# Altium integrated library Renesas Microcontroller R8C.IntLib: 628 symbols (part 29 of 33)
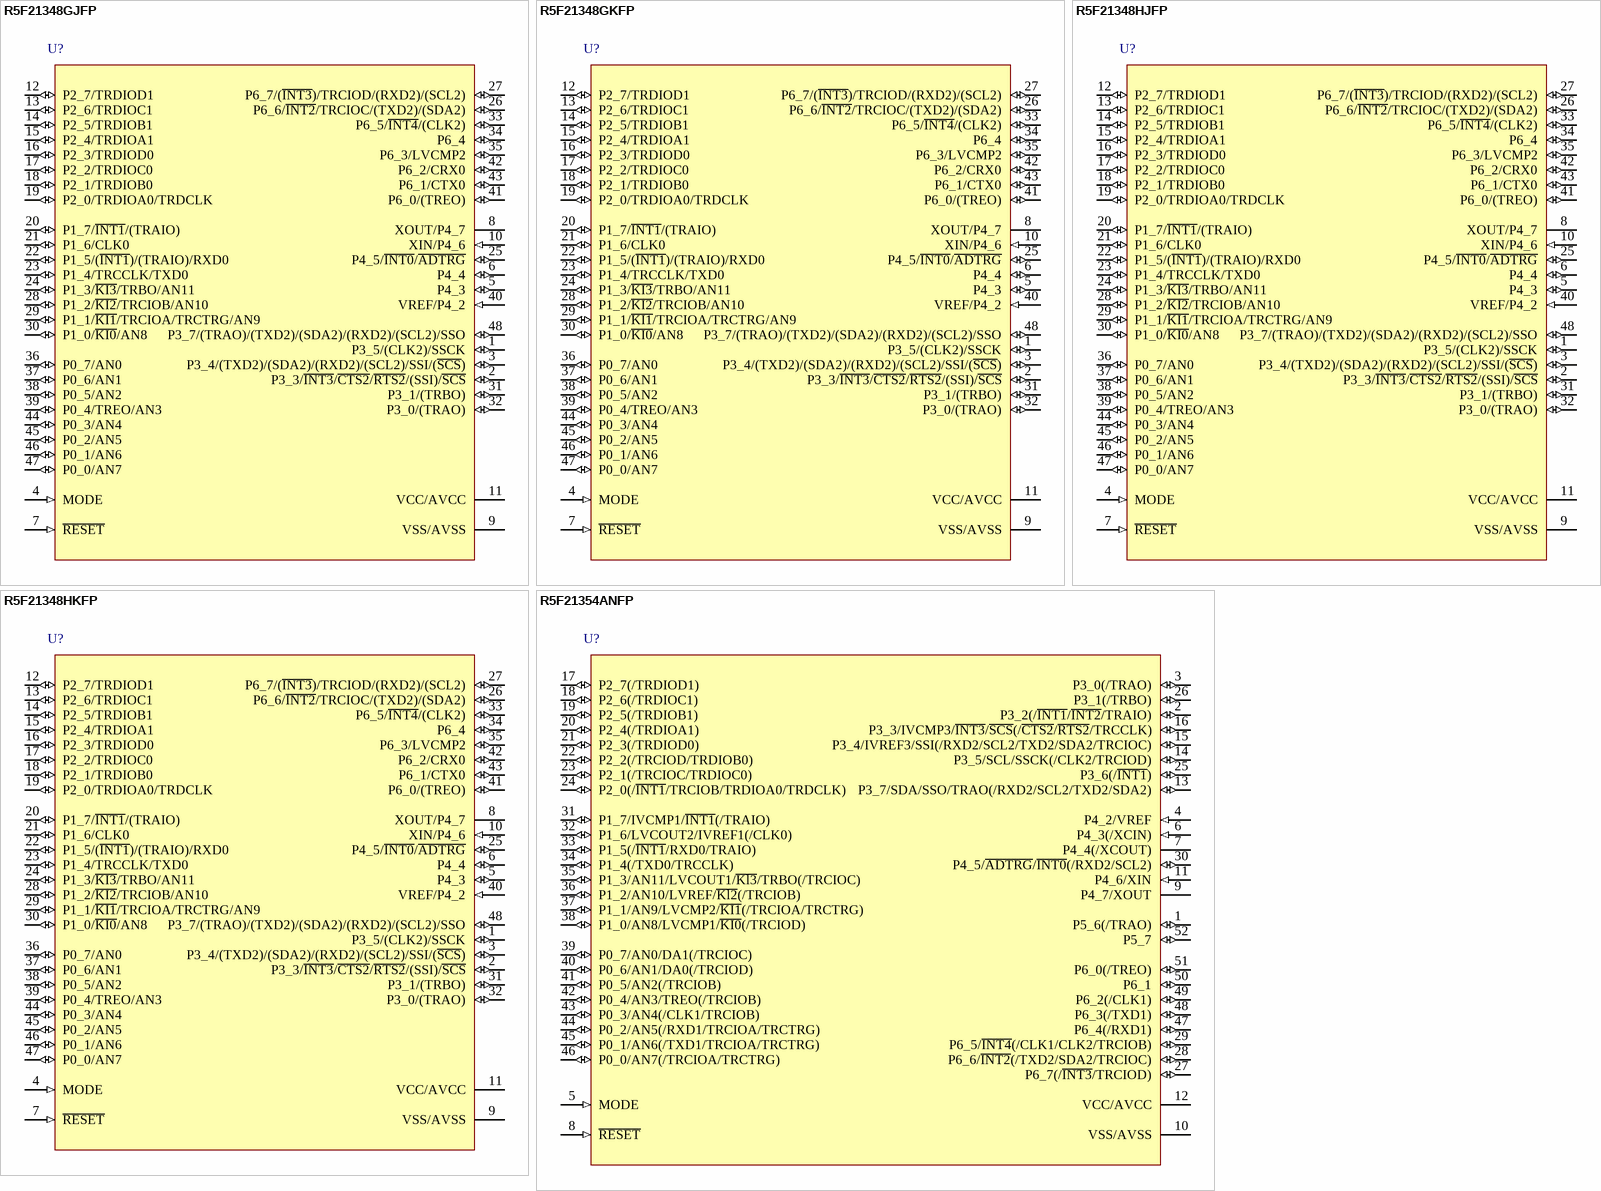
[diagram p144: symbols R5F21348GJFP to R5F21354ANFP]

## R5F21354ANFP
designator U?
R8C/35A Group Single Chip 16-Bit CMOS MCU, 16K ROM + 1K x4 Data Flash, 1.5K RAM, N Version; Published: 30-Oct-2009; DatasheetVersion: Rev.1.00, Sep-2009; PackageVersion: Nov-2007; PackageReference: PLQP0052JA-A; Publisher: Altium Limited; PackageDescription: 52-Pin Plastic Low Profile QFP, 10 x 10 x 1.4 mm Body, 0.65 mm Pitch; Code_JEITA: P-LQFP52-10x10-0.65; ComponentLink1Description: Manufacturer Link; ComponentLink1URL: http://sg.renesas.com/fmwk.jsp?cnt=r8c_family_landing.jsp&fp=/products/mpumcu/r8c_family/; ComponentLink2Description: Datasheet; ComponentLink2URL: http://documentation.renesas.com/eng/products/mpumcu/rej03b0225_r8c35ads.pdf; ComponentLink3Description: Packaging Specification; ComponentLink3URL: http://sg.renesas.com/media/products/common_info/package/pdf/ic/code/plqp0052ja_a.pdf
footprint PLQP0052JA-A_N (QFP, 52-Leads, Body 10x10mm, Pitch 0.65mm, IPC Medium Density)
footprint PLQP0052JA-A_L (QFP, 52-Leads, Body 10x10mm, Pitch 0.65mm, IPC High Density)
footprint PLQP0052JA-A_M (QFP, 52-Leads, Body 10x10mm, Pitch 0.65mm, IPC Low Density)
pins: 1 P5_6(/TRAO) (io), 2 P3_2(/~{INT1}/~{INT2}/TRAIO) (io), 3 P3_0(/TRAO) (io), 4 P4_2/VREF (in), 5 MODE (in), 6 P4_3(/XCIN) (in), 7 P4_4(/XCOUT), 8 ~{RESET} (in), 9 P4_7/XOUT, 10 VSS/AVSS (power), 11 P4_6/XIN (in), 12 VCC/AVCC (power), 13 P3_7/SDA/SSO/TRAO(/RXD2/SCL2/TXD2/SDA2) (io), 14 P3_5/SCL/SSCK(/CLK2/TRCIOD) (io), 15 P3_4/IVREF3/SSI(/RXD2/SCL2/TXD2/SDA2/TRCIOC) (io), 16 P3_3/IVCMP3/~{INT3}/~{SCS}(/~{CTS2}/~{RTS2}/TRCCLK) (io), 17 P2_7(/TRDIOD1) (io), 18 P2_6(/TRDIOC1) (io), 19 P2_5(/TRDIOB1) (io), 20 P2_4(/TRDIOA1) (io), 21 P2_3(/TRDIOD0) (io), 22 P2_2(/TRCIOD/TRDIOB0) (io), 23 P2_1(/TRCIOC/TRDIOC0) (io), 24 P2_0(/~{INT1}/TRCIOB/TRDIOA0/TRDCLK) (io), 25 P3_6(/~{INT1}) (io), 26 P3_1(/TRBO) (io), 27 P6_7(/~{INT3}/TRCIOD) (io), 28 P6_6/~{INT2}(/TXD2/SDA2/TRCIOC) (io), 29 P6_5/~{INT4}(/CLK1/CLK2/TRCIOB) (io), 30 P4_5/~{ADTRG}/~{INT0}(/RXD2/SCL2) (io), 31 P1_7/IVCMP1/~{INT1}(/TRAIO) (io), 32 P1_6/LVCOUT2/IVREF1(/CLK0) (io), 33 P1_5(/~{INT1}/RXD0/TRAIO) (io), 34 P1_4(/TXD0/TRCCLK) (io), 35 P1_3/AN11/LVCOUT1/~{Kl3}/TRBO(/TRCIOC) (io), 36 P1_2/AN10/LVREF/~{Kl2}(/TRCIOB) (io), 37 P1_1/AN9/LVCMP2/~{KI1}(/TRCIOA/TRCTRG) (io), 38 P1_0/AN8/LVCMP1/~{KI0}(/TRCIOD) (io), 39 P0_7/AN0/DA1(/TRCIOC) (io), 40 P0_6/AN1/DA0(/TRCIOD) (io), 41 P0_5/AN2(/TRCIOB) (io), 42 P0_4/AN3/TREO(/TRCIOB) (io), 43 P0_3/AN4(/CLK1/TRCIOB) (io), 44 P0_2/AN5(/RXD1/TRCIOA/TRCTRG) (io), 45 P0_1/AN6(/TXD1/TRCIOA/TRCTRG) (io), 46 P0_0/AN7(/TRCIOA/TRCTRG) (io), 47 P6_4(/RXD1) (io), 48 P6_3(/TXD1) (io), 49 P6_2(/CLK1) (io), 50 P6_1 (io), 51 P6_0(/TREO) (io), 52 P5_7 (io)

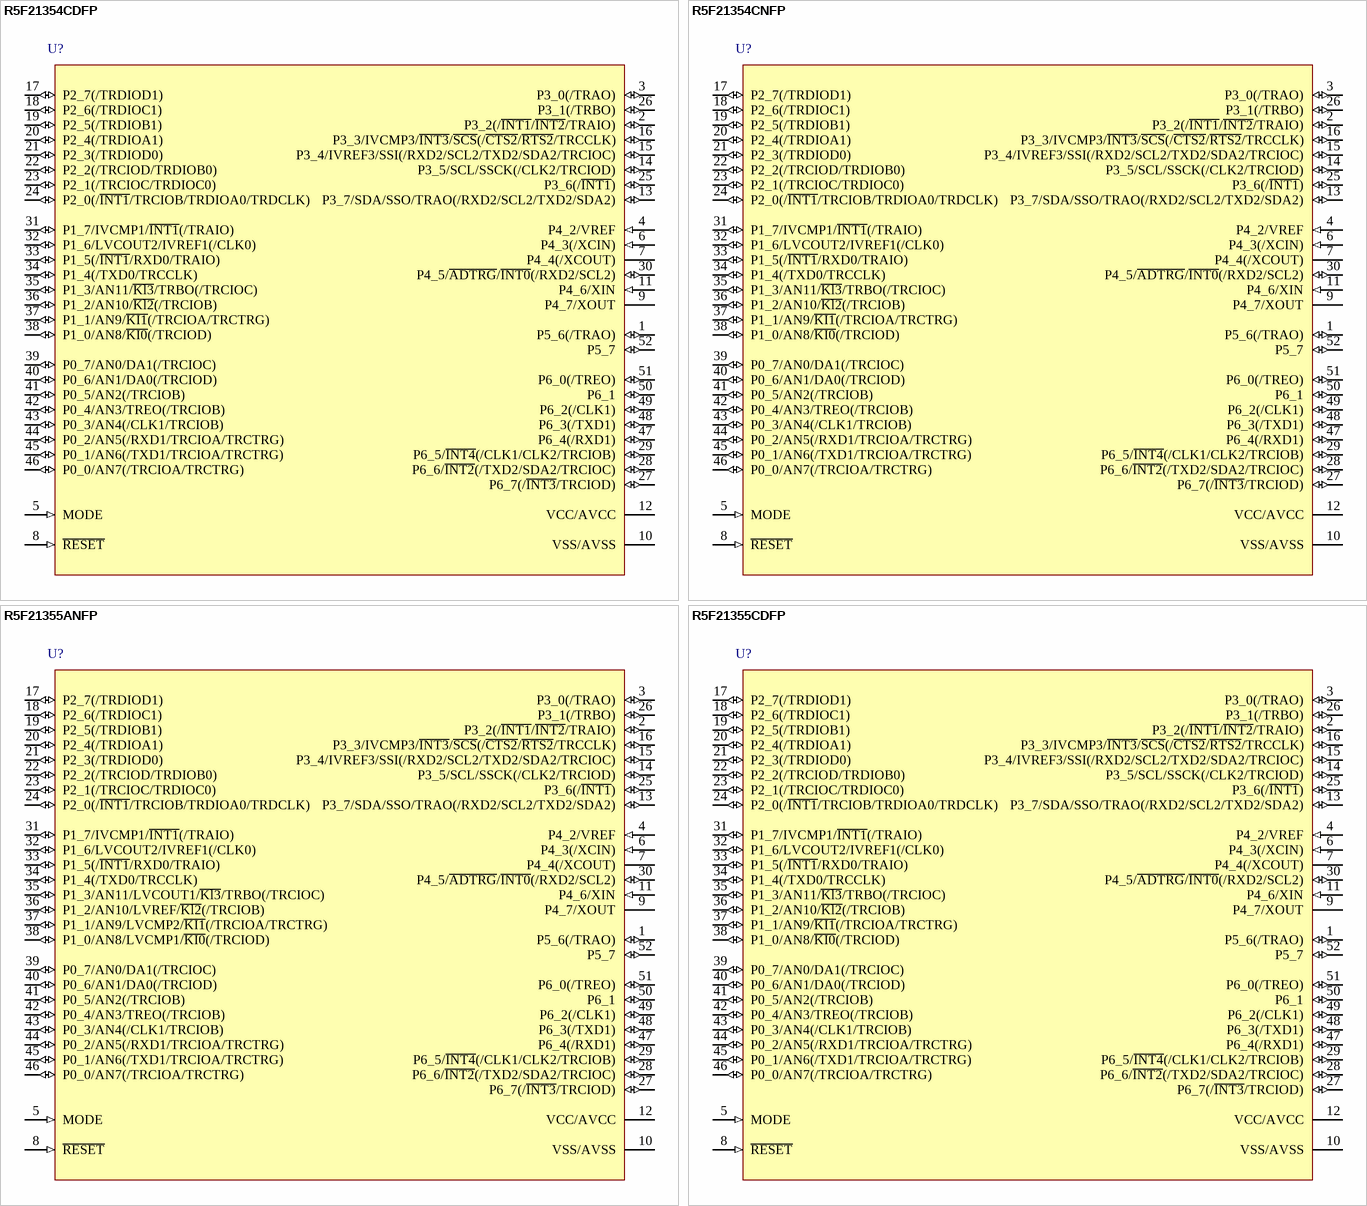
[diagram p99: symbols R5F21354CDFP to R5F21355CDFP]

## R5F21354CDFP
designator U?
R8C/35C Group Single Chip 16-Bit CMOS MCU, 16K + 4K ROM, 1.5K RAM, D Version; Published: 17-Feb-2010; DatasheetVersion: Rev.1.00, Dec-2009; PackageVersion: Nov-2007; PackageReference: PLQP0052JA-A; Publisher: Altium Limited; PackageDescription: 52-Pin Plastic Low Profile QFP, 10 x 10 x 1.4 mm Body, 0.65 mm Pitch; Code_JEITA: P-LQFP52-10x10-0.65; ComponentLink1Description: Manufacturer Link; ComponentLink1URL: http://sg.renesas.com/fmwk.jsp?cnt=r8c_family_landing.jsp&fp=/products/mpumcu/r8c_family/; ComponentLink2Description: Datasheet; ComponentLink2URL: http://documentation.renesas.com/eng/products/mpumcu/rej09b0567_r8c35chm.pdf; ComponentLink3Description: Packaging Specification; ComponentLink3URL: http://sg.renesas.com/media/products/common_info/package/pdf/ic/code/plqp0052ja_a.pdf
footprint PLQP0052JA-A_N (QFP, 52-Leads, Body 10x10mm, Pitch 0.65mm, IPC Medium Density)
footprint PLQP0052JA-A_L (QFP, 52-Leads, Body 10x10mm, Pitch 0.65mm, IPC High Density)
footprint PLQP0052JA-A_M (QFP, 52-Leads, Body 10x10mm, Pitch 0.65mm, IPC Low Density)
pins: 1 P5_6(/TRAO) (io), 2 P3_2(/~{INT1}/~{INT2}/TRAIO) (io), 3 P3_0(/TRAO) (io), 4 P4_2/VREF (in), 5 MODE (in), 6 P4_3(/XCIN) (in), 7 P4_4(/XCOUT), 8 ~{RESET} (in), 9 P4_7/XOUT, 10 VSS/AVSS (power), 11 P4_6/XIN (in), 12 VCC/AVCC (power), 13 P3_7/SDA/SSO/TRAO(/RXD2/SCL2/TXD2/SDA2) (io), 14 P3_5/SCL/SSCK(/CLK2/TRCIOD) (io), 15 P3_4/IVREF3/SSI(/RXD2/SCL2/TXD2/SDA2/TRCIOC) (io), 16 P3_3/IVCMP3/~{INT3}/~{SCS}(/~{CTS2}/~{RTS2}/TRCCLK) (io), 17 P2_7(/TRDIOD1) (io), 18 P2_6(/TRDIOC1) (io), 19 P2_5(/TRDIOB1) (io), 20 P2_4(/TRDIOA1) (io), 21 P2_3(/TRDIOD0) (io), 22 P2_2(/TRCIOD/TRDIOB0) (io), 23 P2_1(/TRCIOC/TRDIOC0) (io), 24 P2_0(/~{INT1}/TRCIOB/TRDIOA0/TRDCLK) (io), 25 P3_6(/~{INT1}) (io), 26 P3_1(/TRBO) (io), 27 P6_7(/~{INT3}/TRCIOD) (io), 28 P6_6/~{INT2}(/TXD2/SDA2/TRCIOC) (io), 29 P6_5/~{INT4}(/CLK1/CLK2/TRCIOB) (io), 30 P4_5/~{ADTRG}/~{INT0}(/RXD2/SCL2) (io), 31 P1_7/IVCMP1/~{INT1}(/TRAIO) (io), 32 P1_6/LVCOUT2/IVREF1(/CLK0) (io), 33 P1_5(/~{INT1}/RXD0/TRAIO) (io), 34 P1_4(/TXD0/TRCCLK) (io), 35 P1_3/AN11/~{Kl3}/TRBO(/TRCIOC) (io), 36 P1_2/AN10/~{Kl2}(/TRCIOB) (io), 37 P1_1/AN9/~{KI1}(/TRCIOA/TRCTRG) (io), 38 P1_0/AN8/~{KI0}(/TRCIOD) (io), 39 P0_7/AN0/DA1(/TRCIOC) (io), 40 P0_6/AN1/DA0(/TRCIOD) (io), 41 P0_5/AN2(/TRCIOB) (io), 42 P0_4/AN3/TREO(/TRCIOB) (io), 43 P0_3/AN4(/CLK1/TRCIOB) (io), 44 P0_2/AN5(/RXD1/TRCIOA/TRCTRG) (io), 45 P0_1/AN6(/TXD1/TRCIOA/TRCTRG) (io), 46 P0_0/AN7(/TRCIOA/TRCTRG) (io), 47 P6_4(/RXD1) (io), 48 P6_3(/TXD1) (io), 49 P6_2(/CLK1) (io), 50 P6_1 (io), 51 P6_0(/TREO) (io), 52 P5_7 (io)

## R5F21354CNFP
designator U?
R8C/35C Group Single Chip 16-Bit CMOS MCU, 16K + 4K ROM, 1.5K RAM, N Version; Published: 17-Feb-2010; DatasheetVersion: Rev.1.00, Dec-2009; PackageVersion: Nov-2007; PackageReference: PLQP0052JA-A; Publisher: Altium Limited; PackageDescription: 52-Pin Plastic Low Profile QFP, 10 x 10 x 1.4 mm Body, 0.65 mm Pitch; Code_JEITA: P-LQFP52-10x10-0.65; ComponentLink1Description: Manufacturer Link; ComponentLink1URL: http://sg.renesas.com/fmwk.jsp?cnt=r8c_family_landing.jsp&fp=/products/mpumcu/r8c_family/; ComponentLink2Description: Datasheet; ComponentLink2URL: http://documentation.renesas.com/eng/products/mpumcu/rej09b0567_r8c35chm.pdf; ComponentLink3Description: Packaging Specification; ComponentLink3URL: http://sg.renesas.com/media/products/common_info/package/pdf/ic/code/plqp0052ja_a.pdf
footprint PLQP0052JA-A_N (QFP, 52-Leads, Body 10x10mm, Pitch 0.65mm, IPC Medium Density)
footprint PLQP0052JA-A_L (QFP, 52-Leads, Body 10x10mm, Pitch 0.65mm, IPC High Density)
footprint PLQP0052JA-A_M (QFP, 52-Leads, Body 10x10mm, Pitch 0.65mm, IPC Low Density)
pins: 1 P5_6(/TRAO) (io), 2 P3_2(/~{INT1}/~{INT2}/TRAIO) (io), 3 P3_0(/TRAO) (io), 4 P4_2/VREF (in), 5 MODE (in), 6 P4_3(/XCIN) (in), 7 P4_4(/XCOUT), 8 ~{RESET} (in), 9 P4_7/XOUT, 10 VSS/AVSS (power), 11 P4_6/XIN (in), 12 VCC/AVCC (power), 13 P3_7/SDA/SSO/TRAO(/RXD2/SCL2/TXD2/SDA2) (io), 14 P3_5/SCL/SSCK(/CLK2/TRCIOD) (io), 15 P3_4/IVREF3/SSI(/RXD2/SCL2/TXD2/SDA2/TRCIOC) (io), 16 P3_3/IVCMP3/~{INT3}/~{SCS}(/~{CTS2}/~{RTS2}/TRCCLK) (io), 17 P2_7(/TRDIOD1) (io), 18 P2_6(/TRDIOC1) (io), 19 P2_5(/TRDIOB1) (io), 20 P2_4(/TRDIOA1) (io), 21 P2_3(/TRDIOD0) (io), 22 P2_2(/TRCIOD/TRDIOB0) (io), 23 P2_1(/TRCIOC/TRDIOC0) (io), 24 P2_0(/~{INT1}/TRCIOB/TRDIOA0/TRDCLK) (io), 25 P3_6(/~{INT1}) (io), 26 P3_1(/TRBO) (io), 27 P6_7(/~{INT3}/TRCIOD) (io), 28 P6_6/~{INT2}(/TXD2/SDA2/TRCIOC) (io), 29 P6_5/~{INT4}(/CLK1/CLK2/TRCIOB) (io), 30 P4_5/~{ADTRG}/~{INT0}(/RXD2/SCL2) (io), 31 P1_7/IVCMP1/~{INT1}(/TRAIO) (io), 32 P1_6/LVCOUT2/IVREF1(/CLK0) (io), 33 P1_5(/~{INT1}/RXD0/TRAIO) (io), 34 P1_4(/TXD0/TRCCLK) (io), 35 P1_3/AN11/~{Kl3}/TRBO(/TRCIOC) (io), 36 P1_2/AN10/~{Kl2}(/TRCIOB) (io), 37 P1_1/AN9/~{KI1}(/TRCIOA/TRCTRG) (io), 38 P1_0/AN8/~{KI0}(/TRCIOD) (io), 39 P0_7/AN0/DA1(/TRCIOC) (io), 40 P0_6/AN1/DA0(/TRCIOD) (io), 41 P0_5/AN2(/TRCIOB) (io), 42 P0_4/AN3/TREO(/TRCIOB) (io), 43 P0_3/AN4(/CLK1/TRCIOB) (io), 44 P0_2/AN5(/RXD1/TRCIOA/TRCTRG) (io), 45 P0_1/AN6(/TXD1/TRCIOA/TRCTRG) (io), 46 P0_0/AN7(/TRCIOA/TRCTRG) (io), 47 P6_4(/RXD1) (io), 48 P6_3(/TXD1) (io), 49 P6_2(/CLK1) (io), 50 P6_1 (io), 51 P6_0(/TREO) (io), 52 P5_7 (io)

## R5F21355ANFP
designator U?
R8C/35A Group Single Chip 16-Bit CMOS MCU, 24K ROM + 1K x4 Data Flash, 2K RAM, N Version; Published: 30-Oct-2009; DatasheetVersion: Rev.1.00, Sep-2009; PackageVersion: Nov-2007; PackageReference: PLQP0052JA-A; Publisher: Altium Limited; PackageDescription: 52-Pin Plastic Low Profile QFP, 10 x 10 x 1.4 mm Body, 0.65 mm Pitch; Code_JEITA: P-LQFP52-10x10-0.65; ComponentLink1Description: Manufacturer Link; ComponentLink1URL: http://sg.renesas.com/fmwk.jsp?cnt=r8c_family_landing.jsp&fp=/products/mpumcu/r8c_family/; ComponentLink2Description: Datasheet; ComponentLink2URL: http://documentation.renesas.com/eng/products/mpumcu/rej03b0225_r8c35ads.pdf; ComponentLink3Description: Packaging Specification; ComponentLink3URL: http://sg.renesas.com/media/products/common_info/package/pdf/ic/code/plqp0052ja_a.pdf
footprint PLQP0052JA-A_N (QFP, 52-Leads, Body 10x10mm, Pitch 0.65mm, IPC Medium Density)
footprint PLQP0052JA-A_L (QFP, 52-Leads, Body 10x10mm, Pitch 0.65mm, IPC High Density)
footprint PLQP0052JA-A_M (QFP, 52-Leads, Body 10x10mm, Pitch 0.65mm, IPC Low Density)
pins: 1 P5_6(/TRAO) (io), 2 P3_2(/~{INT1}/~{INT2}/TRAIO) (io), 3 P3_0(/TRAO) (io), 4 P4_2/VREF (in), 5 MODE (in), 6 P4_3(/XCIN) (in), 7 P4_4(/XCOUT), 8 ~{RESET} (in), 9 P4_7/XOUT, 10 VSS/AVSS (power), 11 P4_6/XIN (in), 12 VCC/AVCC (power), 13 P3_7/SDA/SSO/TRAO(/RXD2/SCL2/TXD2/SDA2) (io), 14 P3_5/SCL/SSCK(/CLK2/TRCIOD) (io), 15 P3_4/IVREF3/SSI(/RXD2/SCL2/TXD2/SDA2/TRCIOC) (io), 16 P3_3/IVCMP3/~{INT3}/~{SCS}(/~{CTS2}/~{RTS2}/TRCCLK) (io), 17 P2_7(/TRDIOD1) (io), 18 P2_6(/TRDIOC1) (io), 19 P2_5(/TRDIOB1) (io), 20 P2_4(/TRDIOA1) (io), 21 P2_3(/TRDIOD0) (io), 22 P2_2(/TRCIOD/TRDIOB0) (io), 23 P2_1(/TRCIOC/TRDIOC0) (io), 24 P2_0(/~{INT1}/TRCIOB/TRDIOA0/TRDCLK) (io), 25 P3_6(/~{INT1}) (io), 26 P3_1(/TRBO) (io), 27 P6_7(/~{INT3}/TRCIOD) (io), 28 P6_6/~{INT2}(/TXD2/SDA2/TRCIOC) (io), 29 P6_5/~{INT4}(/CLK1/CLK2/TRCIOB) (io), 30 P4_5/~{ADTRG}/~{INT0}(/RXD2/SCL2) (io), 31 P1_7/IVCMP1/~{INT1}(/TRAIO) (io), 32 P1_6/LVCOUT2/IVREF1(/CLK0) (io), 33 P1_5(/~{INT1}/RXD0/TRAIO) (io), 34 P1_4(/TXD0/TRCCLK) (io), 35 P1_3/AN11/LVCOUT1/~{Kl3}/TRBO(/TRCIOC) (io), 36 P1_2/AN10/LVREF/~{Kl2}(/TRCIOB) (io), 37 P1_1/AN9/LVCMP2/~{KI1}(/TRCIOA/TRCTRG) (io), 38 P1_0/AN8/LVCMP1/~{KI0}(/TRCIOD) (io), 39 P0_7/AN0/DA1(/TRCIOC) (io), 40 P0_6/AN1/DA0(/TRCIOD) (io), 41 P0_5/AN2(/TRCIOB) (io), 42 P0_4/AN3/TREO(/TRCIOB) (io), 43 P0_3/AN4(/CLK1/TRCIOB) (io), 44 P0_2/AN5(/RXD1/TRCIOA/TRCTRG) (io), 45 P0_1/AN6(/TXD1/TRCIOA/TRCTRG) (io), 46 P0_0/AN7(/TRCIOA/TRCTRG) (io), 47 P6_4(/RXD1) (io), 48 P6_3(/TXD1) (io), 49 P6_2(/CLK1) (io), 50 P6_1 (io), 51 P6_0(/TREO) (io), 52 P5_7 (io)

## R5F21355CDFP
designator U?
R8C/35C Group Single Chip 16-Bit CMOS MCU, 24K + 4K ROM, 2K RAM, D Version; Published: 17-Feb-2010; DatasheetVersion: Rev.1.00, Dec-2009; PackageVersion: Nov-2007; PackageReference: PLQP0052JA-A; Publisher: Altium Limited; PackageDescription: 52-Pin Plastic Low Profile QFP, 10 x 10 x 1.4 mm Body, 0.65 mm Pitch; Code_JEITA: P-LQFP52-10x10-0.65; ComponentLink1Description: Manufacturer Link; ComponentLink1URL: http://sg.renesas.com/fmwk.jsp?cnt=r8c_family_landing.jsp&fp=/products/mpumcu/r8c_family/; ComponentLink2Description: Datasheet; ComponentLink2URL: http://documentation.renesas.com/eng/products/mpumcu/rej09b0567_r8c35chm.pdf; ComponentLink3Description: Packaging Specification; ComponentLink3URL: http://sg.renesas.com/media/products/common_info/package/pdf/ic/code/plqp0052ja_a.pdf
footprint PLQP0052JA-A_N (QFP, 52-Leads, Body 10x10mm, Pitch 0.65mm, IPC Medium Density)
footprint PLQP0052JA-A_L (QFP, 52-Leads, Body 10x10mm, Pitch 0.65mm, IPC High Density)
footprint PLQP0052JA-A_M (QFP, 52-Leads, Body 10x10mm, Pitch 0.65mm, IPC Low Density)
pins: 1 P5_6(/TRAO) (io), 2 P3_2(/~{INT1}/~{INT2}/TRAIO) (io), 3 P3_0(/TRAO) (io), 4 P4_2/VREF (in), 5 MODE (in), 6 P4_3(/XCIN) (in), 7 P4_4(/XCOUT), 8 ~{RESET} (in), 9 P4_7/XOUT, 10 VSS/AVSS (power), 11 P4_6/XIN (in), 12 VCC/AVCC (power), 13 P3_7/SDA/SSO/TRAO(/RXD2/SCL2/TXD2/SDA2) (io), 14 P3_5/SCL/SSCK(/CLK2/TRCIOD) (io), 15 P3_4/IVREF3/SSI(/RXD2/SCL2/TXD2/SDA2/TRCIOC) (io), 16 P3_3/IVCMP3/~{INT3}/~{SCS}(/~{CTS2}/~{RTS2}/TRCCLK) (io), 17 P2_7(/TRDIOD1) (io), 18 P2_6(/TRDIOC1) (io), 19 P2_5(/TRDIOB1) (io), 20 P2_4(/TRDIOA1) (io), 21 P2_3(/TRDIOD0) (io), 22 P2_2(/TRCIOD/TRDIOB0) (io), 23 P2_1(/TRCIOC/TRDIOC0) (io), 24 P2_0(/~{INT1}/TRCIOB/TRDIOA0/TRDCLK) (io), 25 P3_6(/~{INT1}) (io), 26 P3_1(/TRBO) (io), 27 P6_7(/~{INT3}/TRCIOD) (io), 28 P6_6/~{INT2}(/TXD2/SDA2/TRCIOC) (io), 29 P6_5/~{INT4}(/CLK1/CLK2/TRCIOB) (io), 30 P4_5/~{ADTRG}/~{INT0}(/RXD2/SCL2) (io), 31 P1_7/IVCMP1/~{INT1}(/TRAIO) (io), 32 P1_6/LVCOUT2/IVREF1(/CLK0) (io), 33 P1_5(/~{INT1}/RXD0/TRAIO) (io), 34 P1_4(/TXD0/TRCCLK) (io), 35 P1_3/AN11/~{Kl3}/TRBO(/TRCIOC) (io), 36 P1_2/AN10/~{Kl2}(/TRCIOB) (io), 37 P1_1/AN9/~{KI1}(/TRCIOA/TRCTRG) (io), 38 P1_0/AN8/~{KI0}(/TRCIOD) (io), 39 P0_7/AN0/DA1(/TRCIOC) (io), 40 P0_6/AN1/DA0(/TRCIOD) (io), 41 P0_5/AN2(/TRCIOB) (io), 42 P0_4/AN3/TREO(/TRCIOB) (io), 43 P0_3/AN4(/CLK1/TRCIOB) (io), 44 P0_2/AN5(/RXD1/TRCIOA/TRCTRG) (io), 45 P0_1/AN6(/TXD1/TRCIOA/TRCTRG) (io), 46 P0_0/AN7(/TRCIOA/TRCTRG) (io), 47 P6_4(/RXD1) (io), 48 P6_3(/TXD1) (io), 49 P6_2(/CLK1) (io), 50 P6_1 (io), 51 P6_0(/TREO) (io), 52 P5_7 (io)

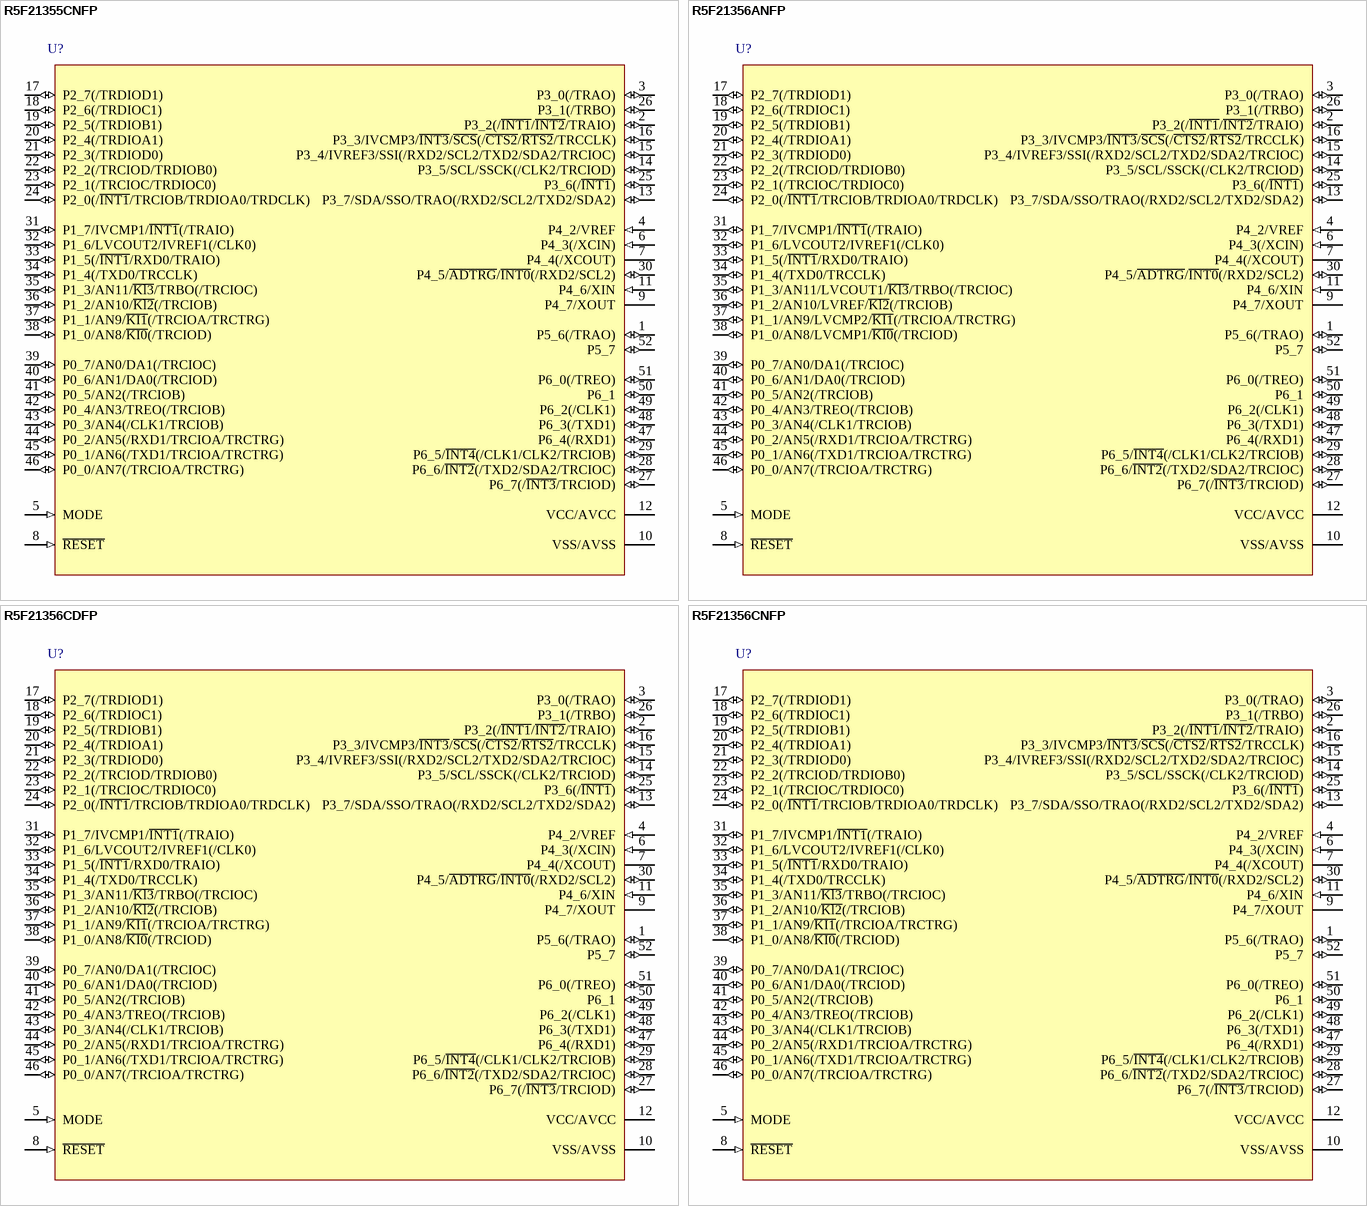
[diagram p100: symbols R5F21355CNFP to R5F21356CNFP]

## R5F21355CNFP
designator U?
R8C/35C Group Single Chip 16-Bit CMOS MCU, 24K + 4K ROM, 2K RAM, N Version; Published: 17-Feb-2010; DatasheetVersion: Rev.1.00, Dec-2009; PackageVersion: Nov-2007; PackageReference: PLQP0052JA-A; Publisher: Altium Limited; PackageDescription: 52-Pin Plastic Low Profile QFP, 10 x 10 x 1.4 mm Body, 0.65 mm Pitch; Code_JEITA: P-LQFP52-10x10-0.65; ComponentLink1Description: Manufacturer Link; ComponentLink1URL: http://sg.renesas.com/fmwk.jsp?cnt=r8c_family_landing.jsp&fp=/products/mpumcu/r8c_family/; ComponentLink2Description: Datasheet; ComponentLink2URL: http://documentation.renesas.com/eng/products/mpumcu/rej09b0567_r8c35chm.pdf; ComponentLink3Description: Packaging Specification; ComponentLink3URL: http://sg.renesas.com/media/products/common_info/package/pdf/ic/code/plqp0052ja_a.pdf
footprint PLQP0052JA-A_N (QFP, 52-Leads, Body 10x10mm, Pitch 0.65mm, IPC Medium Density)
footprint PLQP0052JA-A_L (QFP, 52-Leads, Body 10x10mm, Pitch 0.65mm, IPC High Density)
footprint PLQP0052JA-A_M (QFP, 52-Leads, Body 10x10mm, Pitch 0.65mm, IPC Low Density)
pins: 1 P5_6(/TRAO) (io), 2 P3_2(/~{INT1}/~{INT2}/TRAIO) (io), 3 P3_0(/TRAO) (io), 4 P4_2/VREF (in), 5 MODE (in), 6 P4_3(/XCIN) (in), 7 P4_4(/XCOUT), 8 ~{RESET} (in), 9 P4_7/XOUT, 10 VSS/AVSS (power), 11 P4_6/XIN (in), 12 VCC/AVCC (power), 13 P3_7/SDA/SSO/TRAO(/RXD2/SCL2/TXD2/SDA2) (io), 14 P3_5/SCL/SSCK(/CLK2/TRCIOD) (io), 15 P3_4/IVREF3/SSI(/RXD2/SCL2/TXD2/SDA2/TRCIOC) (io), 16 P3_3/IVCMP3/~{INT3}/~{SCS}(/~{CTS2}/~{RTS2}/TRCCLK) (io), 17 P2_7(/TRDIOD1) (io), 18 P2_6(/TRDIOC1) (io), 19 P2_5(/TRDIOB1) (io), 20 P2_4(/TRDIOA1) (io), 21 P2_3(/TRDIOD0) (io), 22 P2_2(/TRCIOD/TRDIOB0) (io), 23 P2_1(/TRCIOC/TRDIOC0) (io), 24 P2_0(/~{INT1}/TRCIOB/TRDIOA0/TRDCLK) (io), 25 P3_6(/~{INT1}) (io), 26 P3_1(/TRBO) (io), 27 P6_7(/~{INT3}/TRCIOD) (io), 28 P6_6/~{INT2}(/TXD2/SDA2/TRCIOC) (io), 29 P6_5/~{INT4}(/CLK1/CLK2/TRCIOB) (io), 30 P4_5/~{ADTRG}/~{INT0}(/RXD2/SCL2) (io), 31 P1_7/IVCMP1/~{INT1}(/TRAIO) (io), 32 P1_6/LVCOUT2/IVREF1(/CLK0) (io), 33 P1_5(/~{INT1}/RXD0/TRAIO) (io), 34 P1_4(/TXD0/TRCCLK) (io), 35 P1_3/AN11/~{Kl3}/TRBO(/TRCIOC) (io), 36 P1_2/AN10/~{Kl2}(/TRCIOB) (io), 37 P1_1/AN9/~{KI1}(/TRCIOA/TRCTRG) (io), 38 P1_0/AN8/~{KI0}(/TRCIOD) (io), 39 P0_7/AN0/DA1(/TRCIOC) (io), 40 P0_6/AN1/DA0(/TRCIOD) (io), 41 P0_5/AN2(/TRCIOB) (io), 42 P0_4/AN3/TREO(/TRCIOB) (io), 43 P0_3/AN4(/CLK1/TRCIOB) (io), 44 P0_2/AN5(/RXD1/TRCIOA/TRCTRG) (io), 45 P0_1/AN6(/TXD1/TRCIOA/TRCTRG) (io), 46 P0_0/AN7(/TRCIOA/TRCTRG) (io), 47 P6_4(/RXD1) (io), 48 P6_3(/TXD1) (io), 49 P6_2(/CLK1) (io), 50 P6_1 (io), 51 P6_0(/TREO) (io), 52 P5_7 (io)

## R5F21356ANFP
designator U?
R8C/35A Group Single Chip 16-Bit CMOS MCU, 32K ROM + 1K x4 Data Flash, 2.5K RAM, N Version; Published: 30-Oct-2009; DatasheetVersion: Rev.1.00, Sep-2009; PackageVersion: Nov-2007; PackageReference: PLQP0052JA-A; Publisher: Altium Limited; PackageDescription: 52-Pin Plastic Low Profile QFP, 10 x 10 x 1.4 mm Body, 0.65 mm Pitch; Code_JEITA: P-LQFP52-10x10-0.65; ComponentLink1Description: Manufacturer Link; ComponentLink1URL: http://sg.renesas.com/fmwk.jsp?cnt=r8c_family_landing.jsp&fp=/products/mpumcu/r8c_family/; ComponentLink2Description: Datasheet; ComponentLink2URL: http://documentation.renesas.com/eng/products/mpumcu/rej03b0225_r8c35ads.pdf; ComponentLink3Description: Packaging Specification; ComponentLink3URL: http://sg.renesas.com/media/products/common_info/package/pdf/ic/code/plqp0052ja_a.pdf
footprint PLQP0052JA-A_N (QFP, 52-Leads, Body 10x10mm, Pitch 0.65mm, IPC Medium Density)
footprint PLQP0052JA-A_L (QFP, 52-Leads, Body 10x10mm, Pitch 0.65mm, IPC High Density)
footprint PLQP0052JA-A_M (QFP, 52-Leads, Body 10x10mm, Pitch 0.65mm, IPC Low Density)
pins: 1 P5_6(/TRAO) (io), 2 P3_2(/~{INT1}/~{INT2}/TRAIO) (io), 3 P3_0(/TRAO) (io), 4 P4_2/VREF (in), 5 MODE (in), 6 P4_3(/XCIN) (in), 7 P4_4(/XCOUT), 8 ~{RESET} (in), 9 P4_7/XOUT, 10 VSS/AVSS (power), 11 P4_6/XIN (in), 12 VCC/AVCC (power), 13 P3_7/SDA/SSO/TRAO(/RXD2/SCL2/TXD2/SDA2) (io), 14 P3_5/SCL/SSCK(/CLK2/TRCIOD) (io), 15 P3_4/IVREF3/SSI(/RXD2/SCL2/TXD2/SDA2/TRCIOC) (io), 16 P3_3/IVCMP3/~{INT3}/~{SCS}(/~{CTS2}/~{RTS2}/TRCCLK) (io), 17 P2_7(/TRDIOD1) (io), 18 P2_6(/TRDIOC1) (io), 19 P2_5(/TRDIOB1) (io), 20 P2_4(/TRDIOA1) (io), 21 P2_3(/TRDIOD0) (io), 22 P2_2(/TRCIOD/TRDIOB0) (io), 23 P2_1(/TRCIOC/TRDIOC0) (io), 24 P2_0(/~{INT1}/TRCIOB/TRDIOA0/TRDCLK) (io), 25 P3_6(/~{INT1}) (io), 26 P3_1(/TRBO) (io), 27 P6_7(/~{INT3}/TRCIOD) (io), 28 P6_6/~{INT2}(/TXD2/SDA2/TRCIOC) (io), 29 P6_5/~{INT4}(/CLK1/CLK2/TRCIOB) (io), 30 P4_5/~{ADTRG}/~{INT0}(/RXD2/SCL2) (io), 31 P1_7/IVCMP1/~{INT1}(/TRAIO) (io), 32 P1_6/LVCOUT2/IVREF1(/CLK0) (io), 33 P1_5(/~{INT1}/RXD0/TRAIO) (io), 34 P1_4(/TXD0/TRCCLK) (io), 35 P1_3/AN11/LVCOUT1/~{Kl3}/TRBO(/TRCIOC) (io), 36 P1_2/AN10/LVREF/~{Kl2}(/TRCIOB) (io), 37 P1_1/AN9/LVCMP2/~{KI1}(/TRCIOA/TRCTRG) (io), 38 P1_0/AN8/LVCMP1/~{KI0}(/TRCIOD) (io), 39 P0_7/AN0/DA1(/TRCIOC) (io), 40 P0_6/AN1/DA0(/TRCIOD) (io), 41 P0_5/AN2(/TRCIOB) (io), 42 P0_4/AN3/TREO(/TRCIOB) (io), 43 P0_3/AN4(/CLK1/TRCIOB) (io), 44 P0_2/AN5(/RXD1/TRCIOA/TRCTRG) (io), 45 P0_1/AN6(/TXD1/TRCIOA/TRCTRG) (io), 46 P0_0/AN7(/TRCIOA/TRCTRG) (io), 47 P6_4(/RXD1) (io), 48 P6_3(/TXD1) (io), 49 P6_2(/CLK1) (io), 50 P6_1 (io), 51 P6_0(/TREO) (io), 52 P5_7 (io)

## R5F21356CDFP
designator U?
R8C/35C Group Single Chip 16-Bit CMOS MCU, 32K + 4K ROM, 2.5K RAM, D Version; Published: 17-Feb-2010; DatasheetVersion: Rev.1.00, Dec-2009; PackageVersion: Nov-2007; PackageReference: PLQP0052JA-A; Publisher: Altium Limited; PackageDescription: 52-Pin Plastic Low Profile QFP, 10 x 10 x 1.4 mm Body, 0.65 mm Pitch; Code_JEITA: P-LQFP52-10x10-0.65; ComponentLink1Description: Manufacturer Link; ComponentLink1URL: http://sg.renesas.com/fmwk.jsp?cnt=r8c_family_landing.jsp&fp=/products/mpumcu/r8c_family/; ComponentLink2Description: Datasheet; ComponentLink2URL: http://documentation.renesas.com/eng/products/mpumcu/rej09b0567_r8c35chm.pdf; ComponentLink3Description: Packaging Specification; ComponentLink3URL: http://sg.renesas.com/media/products/common_info/package/pdf/ic/code/plqp0052ja_a.pdf
footprint PLQP0052JA-A_N (QFP, 52-Leads, Body 10x10mm, Pitch 0.65mm, IPC Medium Density)
footprint PLQP0052JA-A_L (QFP, 52-Leads, Body 10x10mm, Pitch 0.65mm, IPC High Density)
footprint PLQP0052JA-A_M (QFP, 52-Leads, Body 10x10mm, Pitch 0.65mm, IPC Low Density)
pins: 1 P5_6(/TRAO) (io), 2 P3_2(/~{INT1}/~{INT2}/TRAIO) (io), 3 P3_0(/TRAO) (io), 4 P4_2/VREF (in), 5 MODE (in), 6 P4_3(/XCIN) (in), 7 P4_4(/XCOUT), 8 ~{RESET} (in), 9 P4_7/XOUT, 10 VSS/AVSS (power), 11 P4_6/XIN (in), 12 VCC/AVCC (power), 13 P3_7/SDA/SSO/TRAO(/RXD2/SCL2/TXD2/SDA2) (io), 14 P3_5/SCL/SSCK(/CLK2/TRCIOD) (io), 15 P3_4/IVREF3/SSI(/RXD2/SCL2/TXD2/SDA2/TRCIOC) (io), 16 P3_3/IVCMP3/~{INT3}/~{SCS}(/~{CTS2}/~{RTS2}/TRCCLK) (io), 17 P2_7(/TRDIOD1) (io), 18 P2_6(/TRDIOC1) (io), 19 P2_5(/TRDIOB1) (io), 20 P2_4(/TRDIOA1) (io), 21 P2_3(/TRDIOD0) (io), 22 P2_2(/TRCIOD/TRDIOB0) (io), 23 P2_1(/TRCIOC/TRDIOC0) (io), 24 P2_0(/~{INT1}/TRCIOB/TRDIOA0/TRDCLK) (io), 25 P3_6(/~{INT1}) (io), 26 P3_1(/TRBO) (io), 27 P6_7(/~{INT3}/TRCIOD) (io), 28 P6_6/~{INT2}(/TXD2/SDA2/TRCIOC) (io), 29 P6_5/~{INT4}(/CLK1/CLK2/TRCIOB) (io), 30 P4_5/~{ADTRG}/~{INT0}(/RXD2/SCL2) (io), 31 P1_7/IVCMP1/~{INT1}(/TRAIO) (io), 32 P1_6/LVCOUT2/IVREF1(/CLK0) (io), 33 P1_5(/~{INT1}/RXD0/TRAIO) (io), 34 P1_4(/TXD0/TRCCLK) (io), 35 P1_3/AN11/~{Kl3}/TRBO(/TRCIOC) (io), 36 P1_2/AN10/~{Kl2}(/TRCIOB) (io), 37 P1_1/AN9/~{KI1}(/TRCIOA/TRCTRG) (io), 38 P1_0/AN8/~{KI0}(/TRCIOD) (io), 39 P0_7/AN0/DA1(/TRCIOC) (io), 40 P0_6/AN1/DA0(/TRCIOD) (io), 41 P0_5/AN2(/TRCIOB) (io), 42 P0_4/AN3/TREO(/TRCIOB) (io), 43 P0_3/AN4(/CLK1/TRCIOB) (io), 44 P0_2/AN5(/RXD1/TRCIOA/TRCTRG) (io), 45 P0_1/AN6(/TXD1/TRCIOA/TRCTRG) (io), 46 P0_0/AN7(/TRCIOA/TRCTRG) (io), 47 P6_4(/RXD1) (io), 48 P6_3(/TXD1) (io), 49 P6_2(/CLK1) (io), 50 P6_1 (io), 51 P6_0(/TREO) (io), 52 P5_7 (io)

## R5F21356CNFP
designator U?
R8C/35C Group Single Chip 16-Bit CMOS MCU, 32K + 4K ROM, 2.5K RAM, N Version; Published: 17-Feb-2010; DatasheetVersion: Rev.1.00, Dec-2009; PackageVersion: Nov-2007; PackageReference: PLQP0052JA-A; Publisher: Altium Limited; PackageDescription: 52-Pin Plastic Low Profile QFP, 10 x 10 x 1.4 mm Body, 0.65 mm Pitch; Code_JEITA: P-LQFP52-10x10-0.65; ComponentLink1Description: Manufacturer Link; ComponentLink1URL: http://sg.renesas.com/fmwk.jsp?cnt=r8c_family_landing.jsp&fp=/products/mpumcu/r8c_family/; ComponentLink2Description: Datasheet; ComponentLink2URL: http://documentation.renesas.com/eng/products/mpumcu/rej09b0567_r8c35chm.pdf; ComponentLink3Description: Packaging Specification; ComponentLink3URL: http://sg.renesas.com/media/products/common_info/package/pdf/ic/code/plqp0052ja_a.pdf
footprint PLQP0052JA-A_N (QFP, 52-Leads, Body 10x10mm, Pitch 0.65mm, IPC Medium Density)
footprint PLQP0052JA-A_L (QFP, 52-Leads, Body 10x10mm, Pitch 0.65mm, IPC High Density)
footprint PLQP0052JA-A_M (QFP, 52-Leads, Body 10x10mm, Pitch 0.65mm, IPC Low Density)
pins: 1 P5_6(/TRAO) (io), 2 P3_2(/~{INT1}/~{INT2}/TRAIO) (io), 3 P3_0(/TRAO) (io), 4 P4_2/VREF (in), 5 MODE (in), 6 P4_3(/XCIN) (in), 7 P4_4(/XCOUT), 8 ~{RESET} (in), 9 P4_7/XOUT, 10 VSS/AVSS (power), 11 P4_6/XIN (in), 12 VCC/AVCC (power), 13 P3_7/SDA/SSO/TRAO(/RXD2/SCL2/TXD2/SDA2) (io), 14 P3_5/SCL/SSCK(/CLK2/TRCIOD) (io), 15 P3_4/IVREF3/SSI(/RXD2/SCL2/TXD2/SDA2/TRCIOC) (io), 16 P3_3/IVCMP3/~{INT3}/~{SCS}(/~{CTS2}/~{RTS2}/TRCCLK) (io), 17 P2_7(/TRDIOD1) (io), 18 P2_6(/TRDIOC1) (io), 19 P2_5(/TRDIOB1) (io), 20 P2_4(/TRDIOA1) (io), 21 P2_3(/TRDIOD0) (io), 22 P2_2(/TRCIOD/TRDIOB0) (io), 23 P2_1(/TRCIOC/TRDIOC0) (io), 24 P2_0(/~{INT1}/TRCIOB/TRDIOA0/TRDCLK) (io), 25 P3_6(/~{INT1}) (io), 26 P3_1(/TRBO) (io), 27 P6_7(/~{INT3}/TRCIOD) (io), 28 P6_6/~{INT2}(/TXD2/SDA2/TRCIOC) (io), 29 P6_5/~{INT4}(/CLK1/CLK2/TRCIOB) (io), 30 P4_5/~{ADTRG}/~{INT0}(/RXD2/SCL2) (io), 31 P1_7/IVCMP1/~{INT1}(/TRAIO) (io), 32 P1_6/LVCOUT2/IVREF1(/CLK0) (io), 33 P1_5(/~{INT1}/RXD0/TRAIO) (io), 34 P1_4(/TXD0/TRCCLK) (io), 35 P1_3/AN11/~{Kl3}/TRBO(/TRCIOC) (io), 36 P1_2/AN10/~{Kl2}(/TRCIOB) (io), 37 P1_1/AN9/~{KI1}(/TRCIOA/TRCTRG) (io), 38 P1_0/AN8/~{KI0}(/TRCIOD) (io), 39 P0_7/AN0/DA1(/TRCIOC) (io), 40 P0_6/AN1/DA0(/TRCIOD) (io), 41 P0_5/AN2(/TRCIOB) (io), 42 P0_4/AN3/TREO(/TRCIOB) (io), 43 P0_3/AN4(/CLK1/TRCIOB) (io), 44 P0_2/AN5(/RXD1/TRCIOA/TRCTRG) (io), 45 P0_1/AN6(/TXD1/TRCIOA/TRCTRG) (io), 46 P0_0/AN7(/TRCIOA/TRCTRG) (io), 47 P6_4(/RXD1) (io), 48 P6_3(/TXD1) (io), 49 P6_2(/CLK1) (io), 50 P6_1 (io), 51 P6_0(/TREO) (io), 52 P5_7 (io)

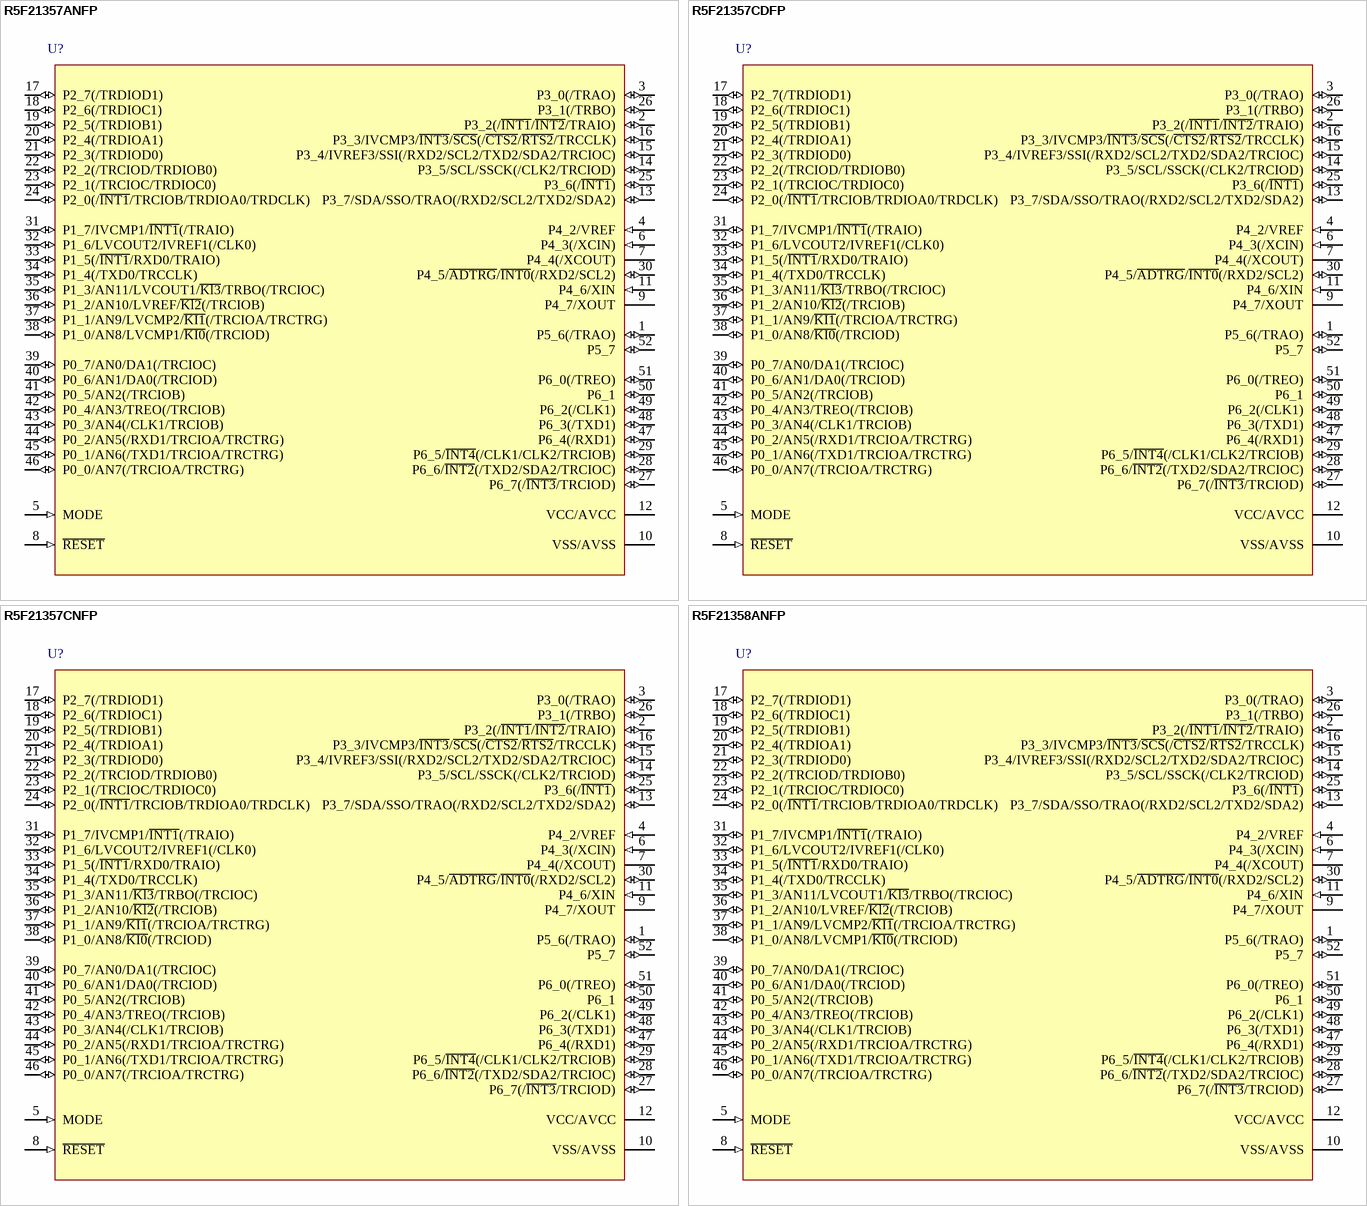
[diagram p101: symbols R5F21357ANFP to R5F21358ANFP]

## R5F21357ANFP
designator U?
R8C/35A Group Single Chip 16-Bit CMOS MCU, 48K + 4K ROM, 4K RAM, N Version; Published: 17-Feb-2010; DatasheetVersion: Rev.1.00, Sep-2009; PackageVersion: Nov-2007; PackageReference: PLQP0052JA-A; Publisher: Altium Limited; PackageDescription: 52-Pin Plastic Low Profile QFP, 10 x 10 x 1.4 mm Body, 0.65 mm Pitch; Code_JEITA: P-LQFP52-10x10-0.65; ComponentLink1Description: Manufacturer Link; ComponentLink1URL: http://sg.renesas.com/fmwk.jsp?cnt=r8c_family_landing.jsp&fp=/products/mpumcu/r8c_family/; ComponentLink2Description: Datasheet; ComponentLink2URL: http://documentation.renesas.com/eng/products/mpumcu/rej03b0225_r8c35ads.pdf; ComponentLink3Description: Packaging Specification; ComponentLink3URL: http://sg.renesas.com/media/products/common_info/package/pdf/ic/code/plqp0052ja_a.pdf
footprint PLQP0052JA-A_N (QFP, 52-Leads, Body 10x10mm, Pitch 0.65mm, IPC Medium Density)
footprint PLQP0052JA-A_L (QFP, 52-Leads, Body 10x10mm, Pitch 0.65mm, IPC High Density)
footprint PLQP0052JA-A_M (QFP, 52-Leads, Body 10x10mm, Pitch 0.65mm, IPC Low Density)
pins: 1 P5_6(/TRAO) (io), 2 P3_2(/~{INT1}/~{INT2}/TRAIO) (io), 3 P3_0(/TRAO) (io), 4 P4_2/VREF (in), 5 MODE (in), 6 P4_3(/XCIN) (in), 7 P4_4(/XCOUT), 8 ~{RESET} (in), 9 P4_7/XOUT, 10 VSS/AVSS (power), 11 P4_6/XIN (in), 12 VCC/AVCC (power), 13 P3_7/SDA/SSO/TRAO(/RXD2/SCL2/TXD2/SDA2) (io), 14 P3_5/SCL/SSCK(/CLK2/TRCIOD) (io), 15 P3_4/IVREF3/SSI(/RXD2/SCL2/TXD2/SDA2/TRCIOC) (io), 16 P3_3/IVCMP3/~{INT3}/~{SCS}(/~{CTS2}/~{RTS2}/TRCCLK) (io), 17 P2_7(/TRDIOD1) (io), 18 P2_6(/TRDIOC1) (io), 19 P2_5(/TRDIOB1) (io), 20 P2_4(/TRDIOA1) (io), 21 P2_3(/TRDIOD0) (io), 22 P2_2(/TRCIOD/TRDIOB0) (io), 23 P2_1(/TRCIOC/TRDIOC0) (io), 24 P2_0(/~{INT1}/TRCIOB/TRDIOA0/TRDCLK) (io), 25 P3_6(/~{INT1}) (io), 26 P3_1(/TRBO) (io), 27 P6_7(/~{INT3}/TRCIOD) (io), 28 P6_6/~{INT2}(/TXD2/SDA2/TRCIOC) (io), 29 P6_5/~{INT4}(/CLK1/CLK2/TRCIOB) (io), 30 P4_5/~{ADTRG}/~{INT0}(/RXD2/SCL2) (io), 31 P1_7/IVCMP1/~{INT1}(/TRAIO) (io), 32 P1_6/LVCOUT2/IVREF1(/CLK0) (io), 33 P1_5(/~{INT1}/RXD0/TRAIO) (io), 34 P1_4(/TXD0/TRCCLK) (io), 35 P1_3/AN11/LVCOUT1/~{Kl3}/TRBO(/TRCIOC) (io), 36 P1_2/AN10/LVREF/~{Kl2}(/TRCIOB) (io), 37 P1_1/AN9/LVCMP2/~{KI1}(/TRCIOA/TRCTRG) (io), 38 P1_0/AN8/LVCMP1/~{KI0}(/TRCIOD) (io), 39 P0_7/AN0/DA1(/TRCIOC) (io), 40 P0_6/AN1/DA0(/TRCIOD) (io), 41 P0_5/AN2(/TRCIOB) (io), 42 P0_4/AN3/TREO(/TRCIOB) (io), 43 P0_3/AN4(/CLK1/TRCIOB) (io), 44 P0_2/AN5(/RXD1/TRCIOA/TRCTRG) (io), 45 P0_1/AN6(/TXD1/TRCIOA/TRCTRG) (io), 46 P0_0/AN7(/TRCIOA/TRCTRG) (io), 47 P6_4(/RXD1) (io), 48 P6_3(/TXD1) (io), 49 P6_2(/CLK1) (io), 50 P6_1 (io), 51 P6_0(/TREO) (io), 52 P5_7 (io)

## R5F21357CDFP
designator U?
R8C/35C Group Single Chip 16-Bit CMOS MCU, 48K + 4K ROM, 4K RAM, D Version; Published: 17-Feb-2010; DatasheetVersion: Rev.1.00, Dec-2009; PackageVersion: Nov-2007; PackageReference: PLQP0052JA-A; Publisher: Altium Limited; PackageDescription: 52-Pin Plastic Low Profile QFP, 10 x 10 x 1.4 mm Body, 0.65 mm Pitch; Code_JEITA: P-LQFP52-10x10-0.65; ComponentLink1Description: Manufacturer Link; ComponentLink1URL: http://sg.renesas.com/fmwk.jsp?cnt=r8c_family_landing.jsp&fp=/products/mpumcu/r8c_family/; ComponentLink2Description: Datasheet; ComponentLink2URL: http://documentation.renesas.com/eng/products/mpumcu/rej09b0567_r8c35chm.pdf; ComponentLink3Description: Packaging Specification; ComponentLink3URL: http://sg.renesas.com/media/products/common_info/package/pdf/ic/code/plqp0052ja_a.pdf
footprint PLQP0052JA-A_N (QFP, 52-Leads, Body 10x10mm, Pitch 0.65mm, IPC Medium Density)
footprint PLQP0052JA-A_L (QFP, 52-Leads, Body 10x10mm, Pitch 0.65mm, IPC High Density)
footprint PLQP0052JA-A_M (QFP, 52-Leads, Body 10x10mm, Pitch 0.65mm, IPC Low Density)
pins: 1 P5_6(/TRAO) (io), 2 P3_2(/~{INT1}/~{INT2}/TRAIO) (io), 3 P3_0(/TRAO) (io), 4 P4_2/VREF (in), 5 MODE (in), 6 P4_3(/XCIN) (in), 7 P4_4(/XCOUT), 8 ~{RESET} (in), 9 P4_7/XOUT, 10 VSS/AVSS (power), 11 P4_6/XIN (in), 12 VCC/AVCC (power), 13 P3_7/SDA/SSO/TRAO(/RXD2/SCL2/TXD2/SDA2) (io), 14 P3_5/SCL/SSCK(/CLK2/TRCIOD) (io), 15 P3_4/IVREF3/SSI(/RXD2/SCL2/TXD2/SDA2/TRCIOC) (io), 16 P3_3/IVCMP3/~{INT3}/~{SCS}(/~{CTS2}/~{RTS2}/TRCCLK) (io), 17 P2_7(/TRDIOD1) (io), 18 P2_6(/TRDIOC1) (io), 19 P2_5(/TRDIOB1) (io), 20 P2_4(/TRDIOA1) (io), 21 P2_3(/TRDIOD0) (io), 22 P2_2(/TRCIOD/TRDIOB0) (io), 23 P2_1(/TRCIOC/TRDIOC0) (io), 24 P2_0(/~{INT1}/TRCIOB/TRDIOA0/TRDCLK) (io), 25 P3_6(/~{INT1}) (io), 26 P3_1(/TRBO) (io), 27 P6_7(/~{INT3}/TRCIOD) (io), 28 P6_6/~{INT2}(/TXD2/SDA2/TRCIOC) (io), 29 P6_5/~{INT4}(/CLK1/CLK2/TRCIOB) (io), 30 P4_5/~{ADTRG}/~{INT0}(/RXD2/SCL2) (io), 31 P1_7/IVCMP1/~{INT1}(/TRAIO) (io), 32 P1_6/LVCOUT2/IVREF1(/CLK0) (io), 33 P1_5(/~{INT1}/RXD0/TRAIO) (io), 34 P1_4(/TXD0/TRCCLK) (io), 35 P1_3/AN11/~{Kl3}/TRBO(/TRCIOC) (io), 36 P1_2/AN10/~{Kl2}(/TRCIOB) (io), 37 P1_1/AN9/~{KI1}(/TRCIOA/TRCTRG) (io), 38 P1_0/AN8/~{KI0}(/TRCIOD) (io), 39 P0_7/AN0/DA1(/TRCIOC) (io), 40 P0_6/AN1/DA0(/TRCIOD) (io), 41 P0_5/AN2(/TRCIOB) (io), 42 P0_4/AN3/TREO(/TRCIOB) (io), 43 P0_3/AN4(/CLK1/TRCIOB) (io), 44 P0_2/AN5(/RXD1/TRCIOA/TRCTRG) (io), 45 P0_1/AN6(/TXD1/TRCIOA/TRCTRG) (io), 46 P0_0/AN7(/TRCIOA/TRCTRG) (io), 47 P6_4(/RXD1) (io), 48 P6_3(/TXD1) (io), 49 P6_2(/CLK1) (io), 50 P6_1 (io), 51 P6_0(/TREO) (io), 52 P5_7 (io)

## R5F21357CNFP
designator U?
R8C/35C Group Single Chip 16-Bit CMOS MCU, 48K + 4K ROM, 4K RAM, N Version; Published: 17-Feb-2010; DatasheetVersion: Rev.1.00, Dec-2009; PackageVersion: Nov-2007; PackageReference: PLQP0052JA-A; Publisher: Altium Limited; PackageDescription: 52-Pin Plastic Low Profile QFP, 10 x 10 x 1.4 mm Body, 0.65 mm Pitch; Code_JEITA: P-LQFP52-10x10-0.65; ComponentLink1Description: Manufacturer Link; ComponentLink1URL: http://sg.renesas.com/fmwk.jsp?cnt=r8c_family_landing.jsp&fp=/products/mpumcu/r8c_family/; ComponentLink2Description: Datasheet; ComponentLink2URL: http://documentation.renesas.com/eng/products/mpumcu/rej09b0567_r8c35chm.pdf; ComponentLink3Description: Packaging Specification; ComponentLink3URL: http://sg.renesas.com/media/products/common_info/package/pdf/ic/code/plqp0052ja_a.pdf
footprint PLQP0052JA-A_N (QFP, 52-Leads, Body 10x10mm, Pitch 0.65mm, IPC Medium Density)
footprint PLQP0052JA-A_L (QFP, 52-Leads, Body 10x10mm, Pitch 0.65mm, IPC High Density)
footprint PLQP0052JA-A_M (QFP, 52-Leads, Body 10x10mm, Pitch 0.65mm, IPC Low Density)
pins: 1 P5_6(/TRAO) (io), 2 P3_2(/~{INT1}/~{INT2}/TRAIO) (io), 3 P3_0(/TRAO) (io), 4 P4_2/VREF (in), 5 MODE (in), 6 P4_3(/XCIN) (in), 7 P4_4(/XCOUT), 8 ~{RESET} (in), 9 P4_7/XOUT, 10 VSS/AVSS (power), 11 P4_6/XIN (in), 12 VCC/AVCC (power), 13 P3_7/SDA/SSO/TRAO(/RXD2/SCL2/TXD2/SDA2) (io), 14 P3_5/SCL/SSCK(/CLK2/TRCIOD) (io), 15 P3_4/IVREF3/SSI(/RXD2/SCL2/TXD2/SDA2/TRCIOC) (io), 16 P3_3/IVCMP3/~{INT3}/~{SCS}(/~{CTS2}/~{RTS2}/TRCCLK) (io), 17 P2_7(/TRDIOD1) (io), 18 P2_6(/TRDIOC1) (io), 19 P2_5(/TRDIOB1) (io), 20 P2_4(/TRDIOA1) (io), 21 P2_3(/TRDIOD0) (io), 22 P2_2(/TRCIOD/TRDIOB0) (io), 23 P2_1(/TRCIOC/TRDIOC0) (io), 24 P2_0(/~{INT1}/TRCIOB/TRDIOA0/TRDCLK) (io), 25 P3_6(/~{INT1}) (io), 26 P3_1(/TRBO) (io), 27 P6_7(/~{INT3}/TRCIOD) (io), 28 P6_6/~{INT2}(/TXD2/SDA2/TRCIOC) (io), 29 P6_5/~{INT4}(/CLK1/CLK2/TRCIOB) (io), 30 P4_5/~{ADTRG}/~{INT0}(/RXD2/SCL2) (io), 31 P1_7/IVCMP1/~{INT1}(/TRAIO) (io), 32 P1_6/LVCOUT2/IVREF1(/CLK0) (io), 33 P1_5(/~{INT1}/RXD0/TRAIO) (io), 34 P1_4(/TXD0/TRCCLK) (io), 35 P1_3/AN11/~{Kl3}/TRBO(/TRCIOC) (io), 36 P1_2/AN10/~{Kl2}(/TRCIOB) (io), 37 P1_1/AN9/~{KI1}(/TRCIOA/TRCTRG) (io), 38 P1_0/AN8/~{KI0}(/TRCIOD) (io), 39 P0_7/AN0/DA1(/TRCIOC) (io), 40 P0_6/AN1/DA0(/TRCIOD) (io), 41 P0_5/AN2(/TRCIOB) (io), 42 P0_4/AN3/TREO(/TRCIOB) (io), 43 P0_3/AN4(/CLK1/TRCIOB) (io), 44 P0_2/AN5(/RXD1/TRCIOA/TRCTRG) (io), 45 P0_1/AN6(/TXD1/TRCIOA/TRCTRG) (io), 46 P0_0/AN7(/TRCIOA/TRCTRG) (io), 47 P6_4(/RXD1) (io), 48 P6_3(/TXD1) (io), 49 P6_2(/CLK1) (io), 50 P6_1 (io), 51 P6_0(/TREO) (io), 52 P5_7 (io)

## R5F21358ANFP
designator U?
R8C/35A Group Single Chip 16-Bit CMOS MCU, 64K + 4K ROM, 6K RAM, N Version; Published: 17-Feb-2010; DatasheetVersion: Rev.1.00, Sep-2009; PackageVersion: Nov-2007; PackageReference: PLQP0052JA-A; Publisher: Altium Limited; PackageDescription: 52-Pin Plastic Low Profile QFP, 10 x 10 x 1.4 mm Body, 0.65 mm Pitch; Code_JEITA: P-LQFP52-10x10-0.65; ComponentLink1Description: Manufacturer Link; ComponentLink1URL: http://sg.renesas.com/fmwk.jsp?cnt=r8c_family_landing.jsp&fp=/products/mpumcu/r8c_family/; ComponentLink2Description: Datasheet; ComponentLink2URL: http://documentation.renesas.com/eng/products/mpumcu/rej03b0225_r8c35ads.pdf; ComponentLink3Description: Packaging Specification; ComponentLink3URL: http://sg.renesas.com/media/products/common_info/package/pdf/ic/code/plqp0052ja_a.pdf
footprint PLQP0052JA-A_N (QFP, 52-Leads, Body 10x10mm, Pitch 0.65mm, IPC Medium Density)
footprint PLQP0052JA-A_L (QFP, 52-Leads, Body 10x10mm, Pitch 0.65mm, IPC High Density)
footprint PLQP0052JA-A_M (QFP, 52-Leads, Body 10x10mm, Pitch 0.65mm, IPC Low Density)
pins: 1 P5_6(/TRAO) (io), 2 P3_2(/~{INT1}/~{INT2}/TRAIO) (io), 3 P3_0(/TRAO) (io), 4 P4_2/VREF (in), 5 MODE (in), 6 P4_3(/XCIN) (in), 7 P4_4(/XCOUT), 8 ~{RESET} (in), 9 P4_7/XOUT, 10 VSS/AVSS (power), 11 P4_6/XIN (in), 12 VCC/AVCC (power), 13 P3_7/SDA/SSO/TRAO(/RXD2/SCL2/TXD2/SDA2) (io), 14 P3_5/SCL/SSCK(/CLK2/TRCIOD) (io), 15 P3_4/IVREF3/SSI(/RXD2/SCL2/TXD2/SDA2/TRCIOC) (io), 16 P3_3/IVCMP3/~{INT3}/~{SCS}(/~{CTS2}/~{RTS2}/TRCCLK) (io), 17 P2_7(/TRDIOD1) (io), 18 P2_6(/TRDIOC1) (io), 19 P2_5(/TRDIOB1) (io), 20 P2_4(/TRDIOA1) (io), 21 P2_3(/TRDIOD0) (io), 22 P2_2(/TRCIOD/TRDIOB0) (io), 23 P2_1(/TRCIOC/TRDIOC0) (io), 24 P2_0(/~{INT1}/TRCIOB/TRDIOA0/TRDCLK) (io), 25 P3_6(/~{INT1}) (io), 26 P3_1(/TRBO) (io), 27 P6_7(/~{INT3}/TRCIOD) (io), 28 P6_6/~{INT2}(/TXD2/SDA2/TRCIOC) (io), 29 P6_5/~{INT4}(/CLK1/CLK2/TRCIOB) (io), 30 P4_5/~{ADTRG}/~{INT0}(/RXD2/SCL2) (io), 31 P1_7/IVCMP1/~{INT1}(/TRAIO) (io), 32 P1_6/LVCOUT2/IVREF1(/CLK0) (io), 33 P1_5(/~{INT1}/RXD0/TRAIO) (io), 34 P1_4(/TXD0/TRCCLK) (io), 35 P1_3/AN11/LVCOUT1/~{Kl3}/TRBO(/TRCIOC) (io), 36 P1_2/AN10/LVREF/~{Kl2}(/TRCIOB) (io), 37 P1_1/AN9/LVCMP2/~{KI1}(/TRCIOA/TRCTRG) (io), 38 P1_0/AN8/LVCMP1/~{KI0}(/TRCIOD) (io), 39 P0_7/AN0/DA1(/TRCIOC) (io), 40 P0_6/AN1/DA0(/TRCIOD) (io), 41 P0_5/AN2(/TRCIOB) (io), 42 P0_4/AN3/TREO(/TRCIOB) (io), 43 P0_3/AN4(/CLK1/TRCIOB) (io), 44 P0_2/AN5(/RXD1/TRCIOA/TRCTRG) (io), 45 P0_1/AN6(/TXD1/TRCIOA/TRCTRG) (io), 46 P0_0/AN7(/TRCIOA/TRCTRG) (io), 47 P6_4(/RXD1) (io), 48 P6_3(/TXD1) (io), 49 P6_2(/CLK1) (io), 50 P6_1 (io), 51 P6_0(/TREO) (io), 52 P5_7 (io)

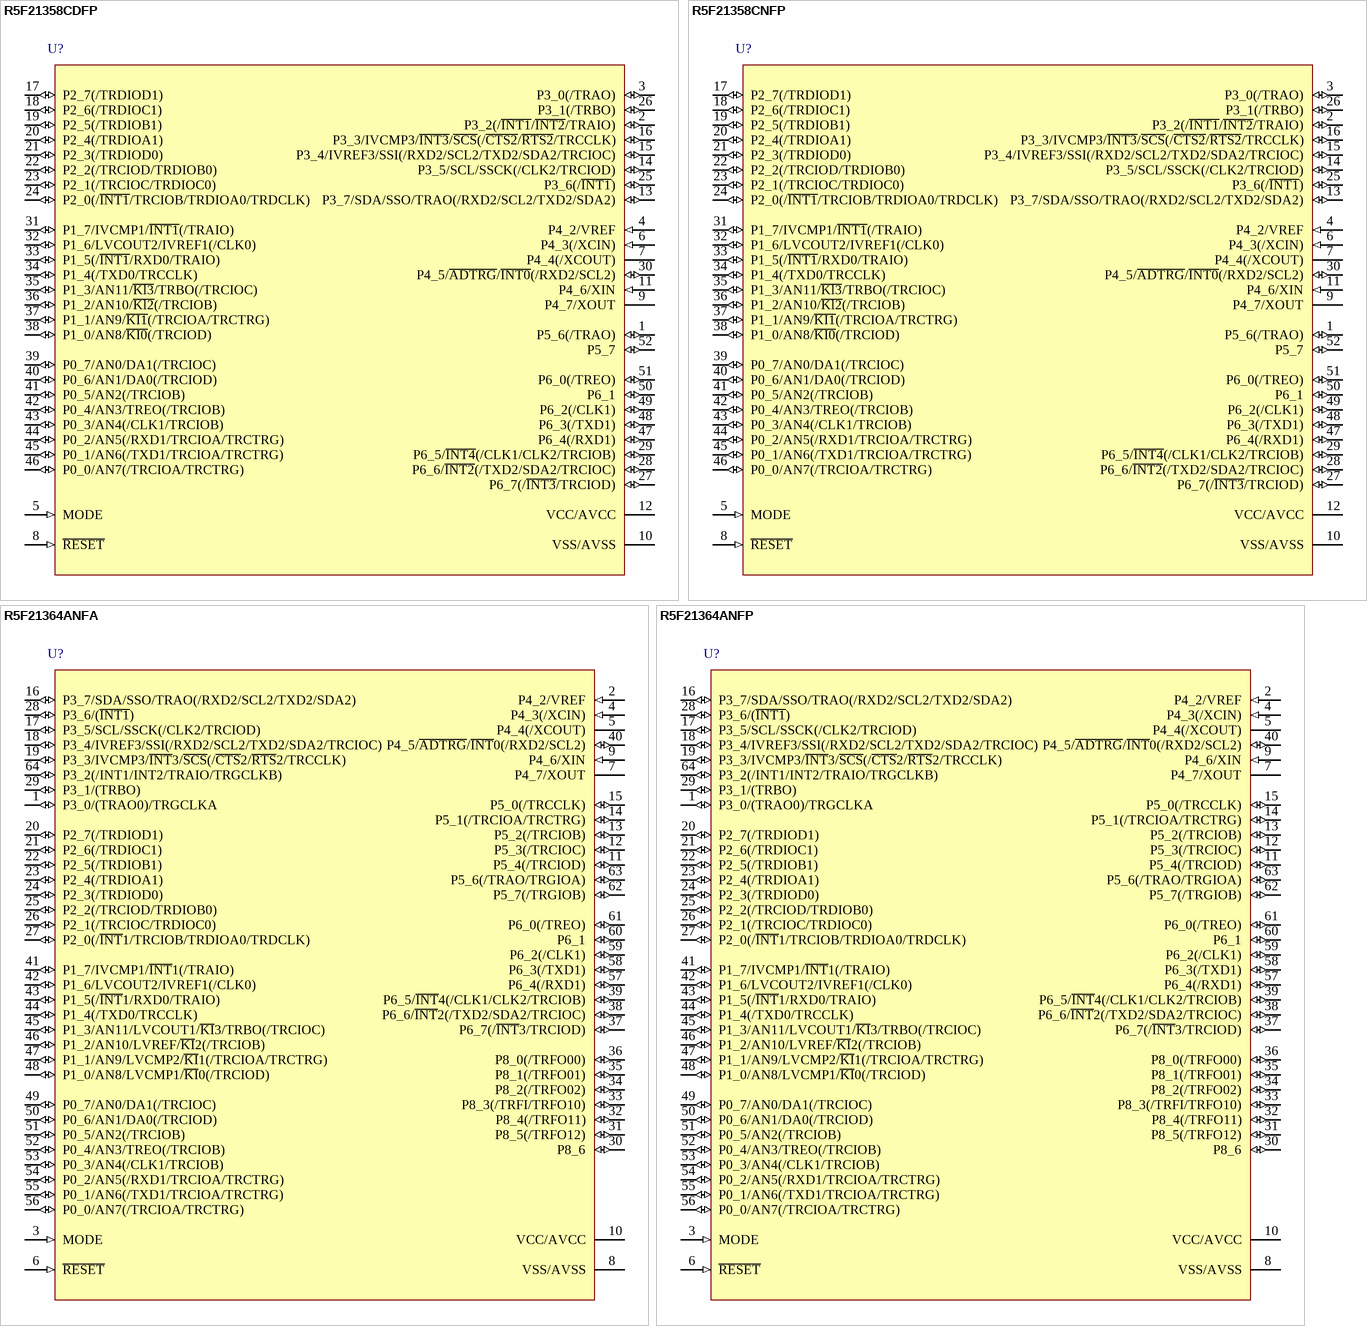
[diagram p102: symbols R5F21358CDFP to R5F21364ANFP]

## R5F21358CDFP
designator U?
R8C/35C Group Single Chip 16-Bit CMOS MCU, 64K + 4K ROM, 6K RAM, D Version; Published: 17-Feb-2010; DatasheetVersion: Rev.1.00, Dec-2009; PackageVersion: Nov-2007; PackageReference: PLQP0052JA-A; Publisher: Altium Limited; PackageDescription: 52-Pin Plastic Low Profile QFP, 10 x 10 x 1.4 mm Body, 0.65 mm Pitch; Code_JEITA: P-LQFP52-10x10-0.65; ComponentLink1Description: Manufacturer Link; ComponentLink1URL: http://sg.renesas.com/fmwk.jsp?cnt=r8c_family_landing.jsp&fp=/products/mpumcu/r8c_family/; ComponentLink2Description: Datasheet; ComponentLink2URL: http://documentation.renesas.com/eng/products/mpumcu/rej09b0567_r8c35chm.pdf; ComponentLink3Description: Packaging Specification; ComponentLink3URL: http://sg.renesas.com/media/products/common_info/package/pdf/ic/code/plqp0052ja_a.pdf
footprint PLQP0052JA-A_N (QFP, 52-Leads, Body 10x10mm, Pitch 0.65mm, IPC Medium Density)
footprint PLQP0052JA-A_L (QFP, 52-Leads, Body 10x10mm, Pitch 0.65mm, IPC High Density)
footprint PLQP0052JA-A_M (QFP, 52-Leads, Body 10x10mm, Pitch 0.65mm, IPC Low Density)
pins: 1 P5_6(/TRAO) (io), 2 P3_2(/~{INT1}/~{INT2}/TRAIO) (io), 3 P3_0(/TRAO) (io), 4 P4_2/VREF (in), 5 MODE (in), 6 P4_3(/XCIN) (in), 7 P4_4(/XCOUT), 8 ~{RESET} (in), 9 P4_7/XOUT, 10 VSS/AVSS (power), 11 P4_6/XIN (in), 12 VCC/AVCC (power), 13 P3_7/SDA/SSO/TRAO(/RXD2/SCL2/TXD2/SDA2) (io), 14 P3_5/SCL/SSCK(/CLK2/TRCIOD) (io), 15 P3_4/IVREF3/SSI(/RXD2/SCL2/TXD2/SDA2/TRCIOC) (io), 16 P3_3/IVCMP3/~{INT3}/~{SCS}(/~{CTS2}/~{RTS2}/TRCCLK) (io), 17 P2_7(/TRDIOD1) (io), 18 P2_6(/TRDIOC1) (io), 19 P2_5(/TRDIOB1) (io), 20 P2_4(/TRDIOA1) (io), 21 P2_3(/TRDIOD0) (io), 22 P2_2(/TRCIOD/TRDIOB0) (io), 23 P2_1(/TRCIOC/TRDIOC0) (io), 24 P2_0(/~{INT1}/TRCIOB/TRDIOA0/TRDCLK) (io), 25 P3_6(/~{INT1}) (io), 26 P3_1(/TRBO) (io), 27 P6_7(/~{INT3}/TRCIOD) (io), 28 P6_6/~{INT2}(/TXD2/SDA2/TRCIOC) (io), 29 P6_5/~{INT4}(/CLK1/CLK2/TRCIOB) (io), 30 P4_5/~{ADTRG}/~{INT0}(/RXD2/SCL2) (io), 31 P1_7/IVCMP1/~{INT1}(/TRAIO) (io), 32 P1_6/LVCOUT2/IVREF1(/CLK0) (io), 33 P1_5(/~{INT1}/RXD0/TRAIO) (io), 34 P1_4(/TXD0/TRCCLK) (io), 35 P1_3/AN11/~{Kl3}/TRBO(/TRCIOC) (io), 36 P1_2/AN10/~{Kl2}(/TRCIOB) (io), 37 P1_1/AN9/~{KI1}(/TRCIOA/TRCTRG) (io), 38 P1_0/AN8/~{KI0}(/TRCIOD) (io), 39 P0_7/AN0/DA1(/TRCIOC) (io), 40 P0_6/AN1/DA0(/TRCIOD) (io), 41 P0_5/AN2(/TRCIOB) (io), 42 P0_4/AN3/TREO(/TRCIOB) (io), 43 P0_3/AN4(/CLK1/TRCIOB) (io), 44 P0_2/AN5(/RXD1/TRCIOA/TRCTRG) (io), 45 P0_1/AN6(/TXD1/TRCIOA/TRCTRG) (io), 46 P0_0/AN7(/TRCIOA/TRCTRG) (io), 47 P6_4(/RXD1) (io), 48 P6_3(/TXD1) (io), 49 P6_2(/CLK1) (io), 50 P6_1 (io), 51 P6_0(/TREO) (io), 52 P5_7 (io)

## R5F21358CNFP
designator U?
R8C/35C Group Single Chip 16-Bit CMOS MCU, 64K + 4K ROM, 6K RAM, N Version; Published: 17-Feb-2010; DatasheetVersion: Rev.1.00, Dec-2009; PackageVersion: Nov-2007; PackageReference: PLQP0052JA-A; Publisher: Altium Limited; PackageDescription: 52-Pin Plastic Low Profile QFP, 10 x 10 x 1.4 mm Body, 0.65 mm Pitch; Code_JEITA: P-LQFP52-10x10-0.65; ComponentLink1Description: Manufacturer Link; ComponentLink1URL: http://sg.renesas.com/fmwk.jsp?cnt=r8c_family_landing.jsp&fp=/products/mpumcu/r8c_family/; ComponentLink2Description: Datasheet; ComponentLink2URL: http://documentation.renesas.com/eng/products/mpumcu/rej09b0567_r8c35chm.pdf; ComponentLink3Description: Packaging Specification; ComponentLink3URL: http://sg.renesas.com/media/products/common_info/package/pdf/ic/code/plqp0052ja_a.pdf
footprint PLQP0052JA-A_N (QFP, 52-Leads, Body 10x10mm, Pitch 0.65mm, IPC Medium Density)
footprint PLQP0052JA-A_L (QFP, 52-Leads, Body 10x10mm, Pitch 0.65mm, IPC High Density)
footprint PLQP0052JA-A_M (QFP, 52-Leads, Body 10x10mm, Pitch 0.65mm, IPC Low Density)
pins: 1 P5_6(/TRAO) (io), 2 P3_2(/~{INT1}/~{INT2}/TRAIO) (io), 3 P3_0(/TRAO) (io), 4 P4_2/VREF (in), 5 MODE (in), 6 P4_3(/XCIN) (in), 7 P4_4(/XCOUT), 8 ~{RESET} (in), 9 P4_7/XOUT, 10 VSS/AVSS (power), 11 P4_6/XIN (in), 12 VCC/AVCC (power), 13 P3_7/SDA/SSO/TRAO(/RXD2/SCL2/TXD2/SDA2) (io), 14 P3_5/SCL/SSCK(/CLK2/TRCIOD) (io), 15 P3_4/IVREF3/SSI(/RXD2/SCL2/TXD2/SDA2/TRCIOC) (io), 16 P3_3/IVCMP3/~{INT3}/~{SCS}(/~{CTS2}/~{RTS2}/TRCCLK) (io), 17 P2_7(/TRDIOD1) (io), 18 P2_6(/TRDIOC1) (io), 19 P2_5(/TRDIOB1) (io), 20 P2_4(/TRDIOA1) (io), 21 P2_3(/TRDIOD0) (io), 22 P2_2(/TRCIOD/TRDIOB0) (io), 23 P2_1(/TRCIOC/TRDIOC0) (io), 24 P2_0(/~{INT1}/TRCIOB/TRDIOA0/TRDCLK) (io), 25 P3_6(/~{INT1}) (io), 26 P3_1(/TRBO) (io), 27 P6_7(/~{INT3}/TRCIOD) (io), 28 P6_6/~{INT2}(/TXD2/SDA2/TRCIOC) (io), 29 P6_5/~{INT4}(/CLK1/CLK2/TRCIOB) (io), 30 P4_5/~{ADTRG}/~{INT0}(/RXD2/SCL2) (io), 31 P1_7/IVCMP1/~{INT1}(/TRAIO) (io), 32 P1_6/LVCOUT2/IVREF1(/CLK0) (io), 33 P1_5(/~{INT1}/RXD0/TRAIO) (io), 34 P1_4(/TXD0/TRCCLK) (io), 35 P1_3/AN11/~{Kl3}/TRBO(/TRCIOC) (io), 36 P1_2/AN10/~{Kl2}(/TRCIOB) (io), 37 P1_1/AN9/~{KI1}(/TRCIOA/TRCTRG) (io), 38 P1_0/AN8/~{KI0}(/TRCIOD) (io), 39 P0_7/AN0/DA1(/TRCIOC) (io), 40 P0_6/AN1/DA0(/TRCIOD) (io), 41 P0_5/AN2(/TRCIOB) (io), 42 P0_4/AN3/TREO(/TRCIOB) (io), 43 P0_3/AN4(/CLK1/TRCIOB) (io), 44 P0_2/AN5(/RXD1/TRCIOA/TRCTRG) (io), 45 P0_1/AN6(/TXD1/TRCIOA/TRCTRG) (io), 46 P0_0/AN7(/TRCIOA/TRCTRG) (io), 47 P6_4(/RXD1) (io), 48 P6_3(/TXD1) (io), 49 P6_2(/CLK1) (io), 50 P6_1 (io), 51 P6_0(/TREO) (io), 52 P5_7 (io)

## R5F21364ANFA
designator U?
R8C/36A Group Single Chip 16-Bit CMOS MCU, 16K + 4K ROM, 1.5K RAM, N Version; Published: 17-Feb-2010; DatasheetVersion: Rev.1.10, Sep-2009; PackageVersion: Oct-2005; PackageReference: PLQP0064GA-A; Publisher: Altium Limited; PackageDescription: 64-Pin Plastic Low Profile QFP, 14 x 14 x 1.4 mm Body, 0.8 mm Pitch; Code_JEITA: P-LQFP64-14x14-0.80; ComponentLink1Description: Manufacturer Link; ComponentLink1URL: http://sg.renesas.com/fmwk.jsp?cnt=r8c_family_landing.jsp&fp=/products/mpumcu/r8c_family/; ComponentLink2Description: Datasheet; ComponentLink2URL: http://documentation.renesas.com/eng/products/mpumcu/rej03b0265_r8c36ads.pdf; ComponentLink3Description: Packaging Specification; ComponentLink3URL: http://sg.renesas.com/media/products/common_info/package/pdf/ic/code/plqp0064ga_a.pdf
footprint PLQP0064GA-A_N (QFP, 64-Leads, Body 14x14mm, Pitch 0.8mm, IPC Medium Density)
footprint PLQP0064GA-A_L (QFP, 64-Leads, Body 14x14mm, Pitch 0.8mm, IPC High Density)
footprint PLQP0064GA-A_M (QFP, 64-Leads, Body 14x14mm, Pitch 0.8mm, IPC Low Density)
pins: 1 P3_0/(TRAO0)/TRGCLKA (io), 2 P4_2/VREF (in), 3 MODE (in), 4 P4_3(/XCIN) (in), 5 P4_4(/XCOUT), 6 ~{RESET} (in), 7 P4_7/XOUT, 8 VSS/AVSS (power), 9 P4_6/XIN (in), 10 VCC/AVCC (power), 11 P5_4(/TRCIOD) (io), 12 P5_3(/TRCIOC) (io), 13 P5_2(/TRCIOB) (io), 14 P5_1(/TRCIOA/TRCTRG) (io), 15 P5_0(/TRCCLK) (io), 16 P3_7/SDA/SSO/TRAO(/RXD2/SCL2/TXD2/SDA2) (io), 17 P3_5/SCL/SSCK(/CLK2/TRCIOD) (io), 18 P3_4/IVREF3/SSI(/RXD2/SCL2/TXD2/SDA2/TRCIOC) (io), 19 P3_3/IVCMP3/~{INT}3/~{SCS}(/~{CTS}2/~{RTS}2/TRCCLK) (io), 20 P2_7(/TRDIOD1) (io), 21 P2_6(/TRDIOC1) (io), 22 P2_5(/TRDIOB1) (io), 23 P2_4(/TRDIOA1) (io), 24 P2_3(/TRDIOD0) (io), 25 P2_2(/TRCIOD/TRDIOB0) (io), 26 P2_1(/TRCIOC/TRDIOC0) (io), 27 P2_0(/~{INT}1/TRCIOB/TRDIOA0/TRDCLK) (io), 28 P3_6/(~{INT1}) (io), 29 P3_1/(TRBO) (io), 30 P8_6 (io), 31 P8_5(/TRFO12) (io), 32 P8_4(/TRFO11) (io), 33 P8_3(/TRFI/TRFO10) (io), 34 P8_2(/TRFO02) (io), 35 P8_1(/TRFO01) (io), 36 P8_0(/TRFO00) (io), 37 P6_7(/~{INT}3/TRCIOD) (io), 38 P6_6/~{INT}2(/TXD2/SDA2/TRCIOC) (io), 39 P6_5/~{INT}4(/CLK1/CLK2/TRCIOB) (io), 40 P4_5/~{ADTRG}/~{INT}0(/RXD2/SCL2) (io), 41 P1_7/IVCMP1/~{INT}1(/TRAIO) (io), 42 P1_6/LVCOUT2/IVREF1(/CLK0) (io), 43 P1_5(/~{INT}1/RXD0/TRAIO) (io), 44 P1_4(/TXD0/TRCCLK) (io), 45 P1_3/AN11/LVCOUT1/~{KI}3/TRBO(/TRCIOC) (io), 46 P1_2/AN10/LVREF/~{KI}2(/TRCIOB) (io), 47 P1_1/AN9/LVCMP2/~{KI}1(/TRCIOA/TRCTRG) (io), 48 P1_0/AN8/LVCMP1/~{KI}0(/TRCIOD) (io), 49 P0_7/AN0/DA1(/TRCIOC) (io), 50 P0_6/AN1/DA0(/TRCIOD) (io), 51 P0_5/AN2(/TRCIOB) (io), 52 P0_4/AN3/TREO(/TRCIOB) (io), 53 P0_3/AN4(/CLK1/TRCIOB) (io), 54 P0_2/AN5(/RXD1/TRCIOA/TRCTRG) (io), 55 P0_1/AN6(/TXD1/TRCIOA/TRCTRG) (io), 56 P0_0/AN7(/TRCIOA/TRCTRG) (io), 57 P6_4(/RXD1) (io), 58 P6_3(/TXD1) (io), 59 P6_2(/CLK1) (io), 60 P6_1 (io), 61 P6_0(/TREO) (io), 62 P5_7(/TRGIOB) (io), 63 P5_6(/TRAO/TRGIOA) (io), 64 P3_2(/INT1/INT2/TRAIO/TRGCLKB) (io)

## R5F21364ANFP
designator U?
R8C/36A Group Single Chip 16-Bit CMOS MCU, 16K + 4K ROM, 1.5K RAM, N Version; Published: 17-Feb-2010; DatasheetVersion: Rev.1.10, Sep-2009; PackageVersion: Sep-2005; PackageReference: PLQP0064KB-A; Publisher: Altium Limited; PackageDescription: 64-Pin Plastic Low Profile QFP, 10 x 10 x 1.4 mm Body, 0.5 mm Pitch; Code_JEITA: P-LQFP64-10x10-0.50; Code_IPC: SQFP50P1200X1200-64; ComponentLink1Description: Manufacturer Link; ComponentLink1URL: http://sg.renesas.com/fmwk.jsp?cnt=r8c_family_landing.jsp&fp=/products/mpumcu/r8c_family/; ComponentLink2Description: Datasheet; ComponentLink2URL: http://documentation.renesas.com/eng/products/mpumcu/rej03b0265_r8c36ads.pdf; ComponentLink3Description: Packaging Specification; ComponentLink3URL: http://sg.renesas.com/media/products/common_info/package/pdf/ic/code/plqp0064kb_a.pdf
footprint PLQP0064KB-A_N (Shrink QFP, 64-Leads, Body 10x10mm, Pitch 0.5mm, IPC Medium Density)
footprint PLQP0064KB-A_L (Shrink QFP, 64-Leads, Body 10x10mm, Pitch 0.5mm, IPC High Density)
footprint PLQP0064KB-A_M (Shrink QFP, 64-Leads, Body 10x10mm, Pitch 0.5mm, IPC Low Density)
pins: 1 P3_0/(TRAO0)/TRGCLKA (io), 2 P4_2/VREF (in), 3 MODE (in), 4 P4_3(/XCIN) (in), 5 P4_4(/XCOUT), 6 ~{RESET} (in), 7 P4_7/XOUT, 8 VSS/AVSS (power), 9 P4_6/XIN (in), 10 VCC/AVCC (power), 11 P5_4(/TRCIOD) (io), 12 P5_3(/TRCIOC) (io), 13 P5_2(/TRCIOB) (io), 14 P5_1(/TRCIOA/TRCTRG) (io), 15 P5_0(/TRCCLK) (io), 16 P3_7/SDA/SSO/TRAO(/RXD2/SCL2/TXD2/SDA2) (io), 17 P3_5/SCL/SSCK(/CLK2/TRCIOD) (io), 18 P3_4/IVREF3/SSI(/RXD2/SCL2/TXD2/SDA2/TRCIOC) (io), 19 P3_3/IVCMP3/~{INT}3/~{SCS}(/~{CTS}2/~{RTS}2/TRCCLK) (io), 20 P2_7(/TRDIOD1) (io), 21 P2_6(/TRDIOC1) (io), 22 P2_5(/TRDIOB1) (io), 23 P2_4(/TRDIOA1) (io), 24 P2_3(/TRDIOD0) (io), 25 P2_2(/TRCIOD/TRDIOB0) (io), 26 P2_1(/TRCIOC/TRDIOC0) (io), 27 P2_0(/~{INT}1/TRCIOB/TRDIOA0/TRDCLK) (io), 28 P3_6/(~{INT1}) (io), 29 P3_1/(TRBO) (io), 30 P8_6 (io), 31 P8_5(/TRFO12) (io), 32 P8_4(/TRFO11) (io), 33 P8_3(/TRFI/TRFO10) (io), 34 P8_2(/TRFO02) (io), 35 P8_1(/TRFO01) (io), 36 P8_0(/TRFO00) (io), 37 P6_7(/~{INT}3/TRCIOD) (io), 38 P6_6/~{INT}2(/TXD2/SDA2/TRCIOC) (io), 39 P6_5/~{INT}4(/CLK1/CLK2/TRCIOB) (io), 40 P4_5/~{ADTRG}/~{INT}0(/RXD2/SCL2) (io), 41 P1_7/IVCMP1/~{INT}1(/TRAIO) (io), 42 P1_6/LVCOUT2/IVREF1(/CLK0) (io), 43 P1_5(/~{INT}1/RXD0/TRAIO) (io), 44 P1_4(/TXD0/TRCCLK) (io), 45 P1_3/AN11/LVCOUT1/~{KI}3/TRBO(/TRCIOC) (io), 46 P1_2/AN10/LVREF/~{KI}2(/TRCIOB) (io), 47 P1_1/AN9/LVCMP2/~{KI}1(/TRCIOA/TRCTRG) (io), 48 P1_0/AN8/LVCMP1/~{KI}0(/TRCIOD) (io), 49 P0_7/AN0/DA1(/TRCIOC) (io), 50 P0_6/AN1/DA0(/TRCIOD) (io), 51 P0_5/AN2(/TRCIOB) (io), 52 P0_4/AN3/TREO(/TRCIOB) (io), 53 P0_3/AN4(/CLK1/TRCIOB) (io), 54 P0_2/AN5(/RXD1/TRCIOA/TRCTRG) (io), 55 P0_1/AN6(/TXD1/TRCIOA/TRCTRG) (io), 56 P0_0/AN7(/TRCIOA/TRCTRG) (io), 57 P6_4(/RXD1) (io), 58 P6_3(/TXD1) (io), 59 P6_2(/CLK1) (io), 60 P6_1 (io), 61 P6_0(/TREO) (io), 62 P5_7(/TRGIOB) (io), 63 P5_6(/TRAO/TRGIOA) (io), 64 P3_2(/INT1/INT2/TRAIO/TRGCLKB) (io)

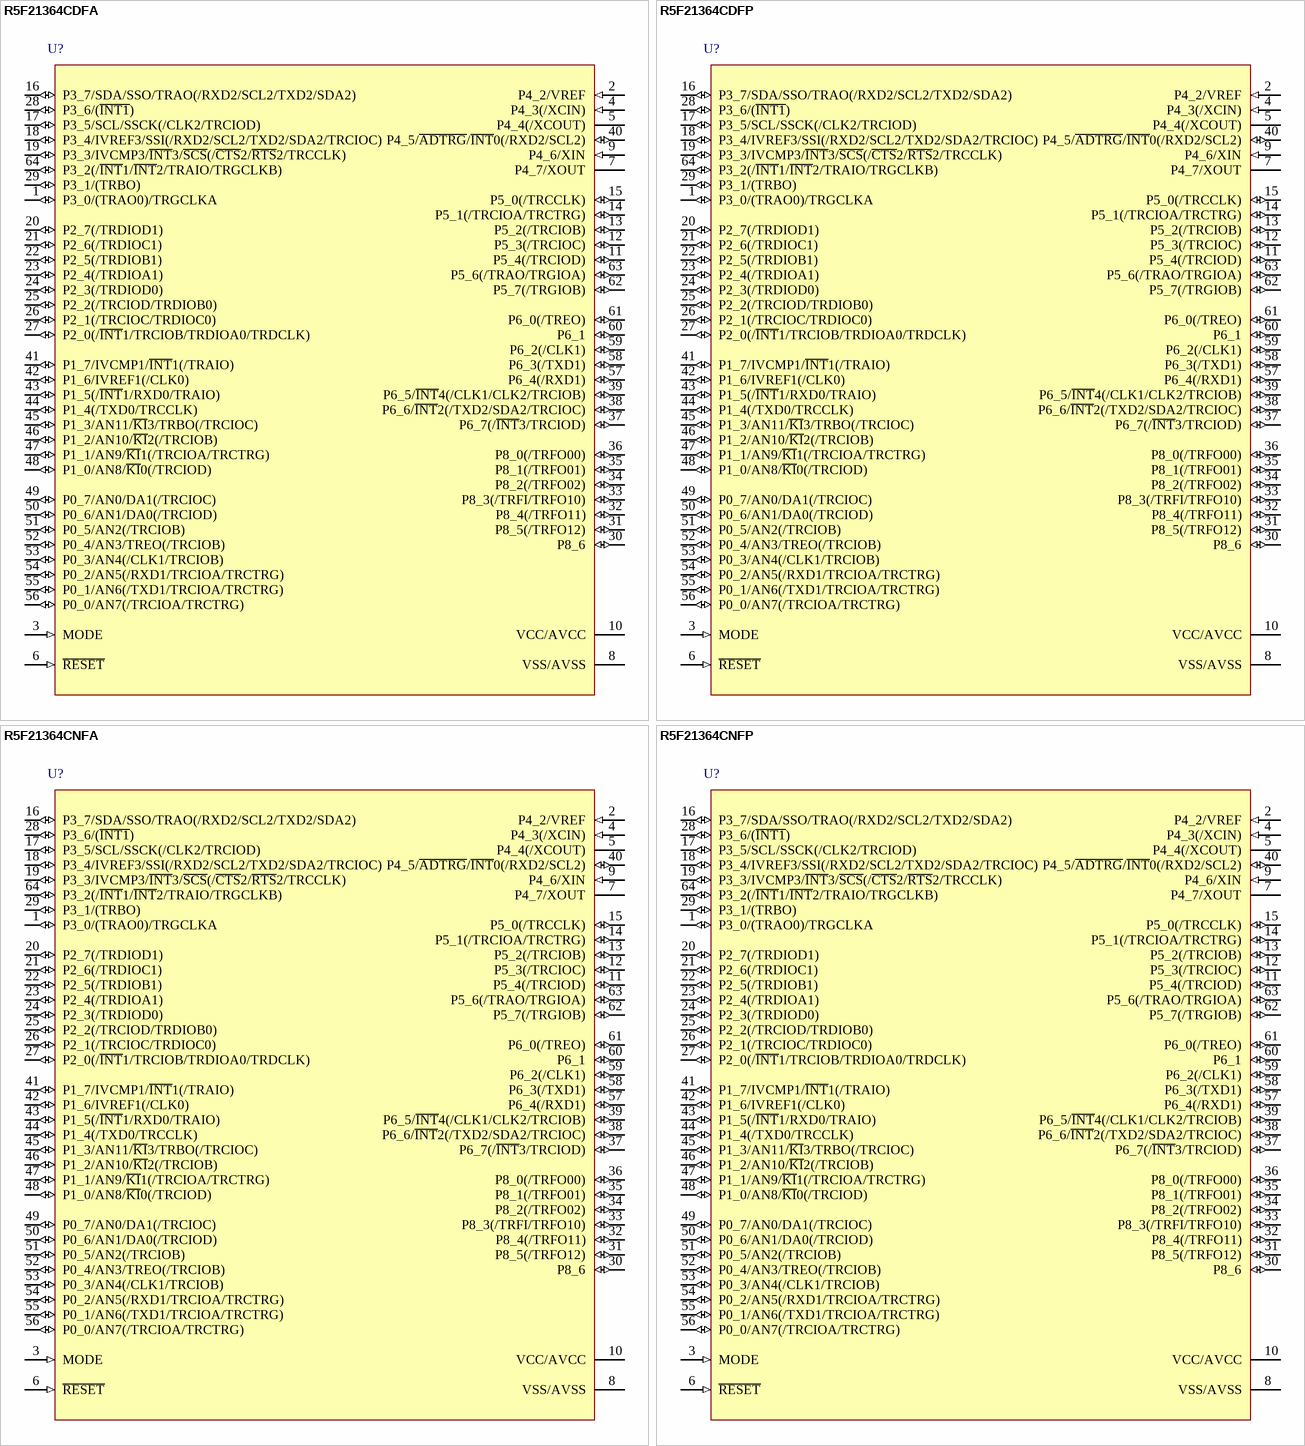
[diagram p103: symbols R5F21364CDFA to R5F21364CNFP]

## R5F21364CDFA
designator U?
R8C/36C Group Single Chip 16-Bit CMOS MCU, 16K + 4K ROM, 1.5K RAM, D Version; Published: 17-Feb-2010; DatasheetVersion: Rev.0.10, Nov-2009; PackageVersion: Oct-2005; PackageReference: PLQP0064GA-A; Publisher: Altium Limited; PackageDescription: 64-Pin Plastic Low Profile QFP, 14 x 14 x 1.4 mm Body, 0.8 mm Pitch; Code_JEITA: P-LQFP64-14x14-0.80; ComponentLink1Description: Manufacturer Link; ComponentLink1URL: http://sg.renesas.com/fmwk.jsp?cnt=r8c_family_landing.jsp&fp=/products/mpumcu/r8c_family/; ComponentLink2Description: Datasheet; ComponentLink2URL: http://documentation.renesas.com/eng/products/mpumcu/rej09b0574_r8c36chm.pdf; ComponentLink3Description: Packaging Specification; ComponentLink3URL: http://sg.renesas.com/media/products/common_info/package/pdf/ic/code/plqp0064ga_a.pdf
footprint PLQP0064GA-A_N (QFP, 64-Leads, Body 14x14mm, Pitch 0.8mm, IPC Medium Density)
footprint PLQP0064GA-A_L (QFP, 64-Leads, Body 14x14mm, Pitch 0.8mm, IPC High Density)
footprint PLQP0064GA-A_M (QFP, 64-Leads, Body 14x14mm, Pitch 0.8mm, IPC Low Density)
pins: 1 P3_0/(TRAO0)/TRGCLKA (io), 2 P4_2/VREF (in), 3 MODE (in), 4 P4_3(/XCIN) (in), 5 P4_4(/XCOUT), 6 ~{RESET} (in), 7 P4_7/XOUT, 8 VSS/AVSS (power), 9 P4_6/XIN (in), 10 VCC/AVCC (power), 11 P5_4(/TRCIOD) (io), 12 P5_3(/TRCIOC) (io), 13 P5_2(/TRCIOB) (io), 14 P5_1(/TRCIOA/TRCTRG) (io), 15 P5_0(/TRCCLK) (io), 16 P3_7/SDA/SSO/TRAO(/RXD2/SCL2/TXD2/SDA2) (io), 17 P3_5/SCL/SSCK(/CLK2/TRCIOD) (io), 18 P3_4/IVREF3/SSI(/RXD2/SCL2/TXD2/SDA2/TRCIOC) (io), 19 P3_3/IVCMP3/~{INT}3/~{SCS}(/~{CTS}2/~{RTS}2/TRCCLK) (io), 20 P2_7(/TRDIOD1) (io), 21 P2_6(/TRDIOC1) (io), 22 P2_5(/TRDIOB1) (io), 23 P2_4(/TRDIOA1) (io), 24 P2_3(/TRDIOD0) (io), 25 P2_2(/TRCIOD/TRDIOB0) (io), 26 P2_1(/TRCIOC/TRDIOC0) (io), 27 P2_0(/~{INT}1/TRCIOB/TRDIOA0/TRDCLK) (io), 28 P3_6/(~{INT1}) (io), 29 P3_1/(TRBO) (io), 30 P8_6 (io), 31 P8_5(/TRFO12) (io), 32 P8_4(/TRFO11) (io), 33 P8_3(/TRFI/TRFO10) (io), 34 P8_2(/TRFO02) (io), 35 P8_1(/TRFO01) (io), 36 P8_0(/TRFO00) (io), 37 P6_7(/~{INT}3/TRCIOD) (io), 38 P6_6/~{INT}2(/TXD2/SDA2/TRCIOC) (io), 39 P6_5/~{INT}4(/CLK1/CLK2/TRCIOB) (io), 40 P4_5/~{ADTRG}/~{INT}0(/RXD2/SCL2) (io), 41 P1_7/IVCMP1/~{INT}1(/TRAIO) (io), 42 P1_6/IVREF1(/CLK0) (io), 43 P1_5(/~{INT}1/RXD0/TRAIO) (io), 44 P1_4(/TXD0/TRCCLK) (io), 45 P1_3/AN11/~{KI}3/TRBO(/TRCIOC) (io), 46 P1_2/AN10/~{KI}2(/TRCIOB) (io), 47 P1_1/AN9/~{KI}1(/TRCIOA/TRCTRG) (io), 48 P1_0/AN8/~{KI}0(/TRCIOD) (io), 49 P0_7/AN0/DA1(/TRCIOC) (io), 50 P0_6/AN1/DA0(/TRCIOD) (io), 51 P0_5/AN2(/TRCIOB) (io), 52 P0_4/AN3/TREO(/TRCIOB) (io), 53 P0_3/AN4(/CLK1/TRCIOB) (io), 54 P0_2/AN5(/RXD1/TRCIOA/TRCTRG) (io), 55 P0_1/AN6(/TXD1/TRCIOA/TRCTRG) (io), 56 P0_0/AN7(/TRCIOA/TRCTRG) (io), 57 P6_4(/RXD1) (io), 58 P6_3(/TXD1) (io), 59 P6_2(/CLK1) (io), 60 P6_1 (io), 61 P6_0(/TREO) (io), 62 P5_7(/TRGIOB) (io), 63 P5_6(/TRAO/TRGIOA) (io), 64 P3_2(/~{INT}1/~{INT}2/TRAIO/TRGCLKB) (io)